# Altium integrated library Xilinx XC4000 E.IntLib: 265 symbols (part 4 of 26)
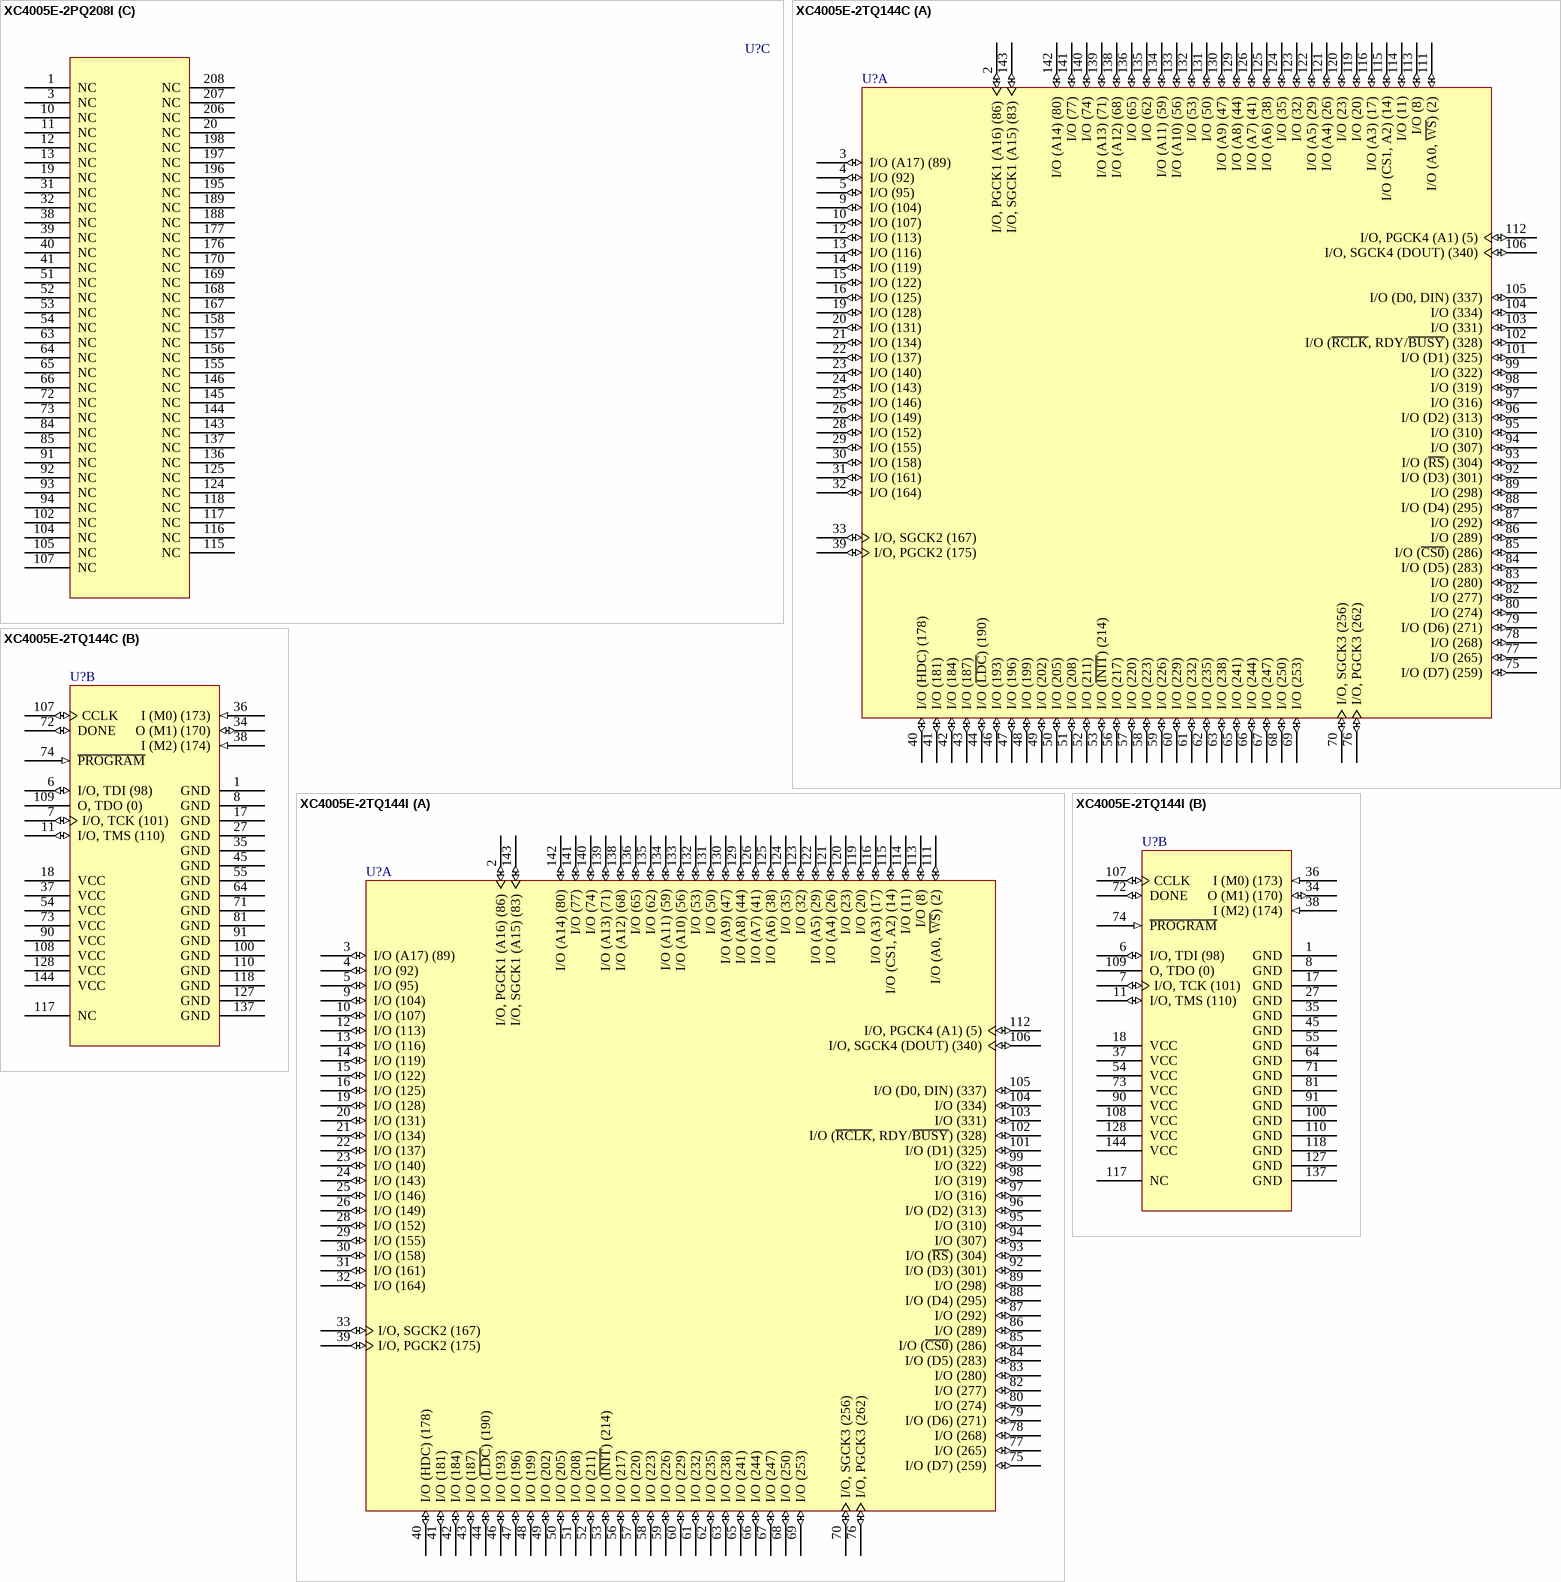
[diagram p274: symbols XC4005E-2PQ208I to XC4005E-2TQ144I]

## XC4005E-2PQ208I
designator U?
XC4000E FPGA, 208-Pin PQFP, Industrial Grade; ComponentAvailability: Not for New Design; Published: 28-Feb-2003; LatestRevisionDate: 13-Apr-2006; LatestRevisionNote: IPC-7351 Footprint Added.; DatasheetVersion: (v1.6) May-99; PackageVersion: ver1.2, Jun-2004; PackageReference: PQ208; Publisher: Altium Limited; PackageDescription: 208-Pin Plastic Quad Flat Pack (PQ208); Code_JEDEC: MS-029-FA-1; ComponentLink1Description: Manufacturer Link; ComponentLink1URL: http://www.xilinx.com/; ComponentLink2Description: Datasheet; ComponentLink2URL: http://direct.xilinx.com/bvdocs/publications/4000.pdf; ComponentLink3Description: Discontinuation Notice; ComponentLink3URL: http://direct.xilinx.com/bvdocs/notifications/pdn2004-21.pdf
footprint PQ208_N (Shrink QFP, 208-Leads, Body 28x28mm, Pitch 0.5mm, IPC Medium Density)
footprint PQ208_L (Shrink QFP, 208-Leads, Body 28x28mm, Pitch 0.5mm, IPC High Density)
footprint PQ208_M (Shrink QFP, 208-Leads, Body 28x28mm, Pitch 0.5mm, IPC Low Density)
3D model XC4005E-PQ208 (208-Pin Plastic Quad Flat Pack (PQ208))
part A pins: 4 I/O, PGCK1 (A16) (86) (io), 5 I/O (A17) (89) (io), 6 I/O (92) (io), 7 I/O (95) (io), 15 I/O (104) (io), 16 I/O (107) (io), 18 I/O (113) (io), 21 I/O (116) (io), 22 I/O (119) (io), 23 I/O (122) (io), 24 I/O (125) (io), 27 I/O (128) (io), 28 I/O (131) (io), 29 I/O (134) (io), 30 I/O (137) (io), 33 I/O (140) (io), 34 I/O (143) (io), 35 I/O (146) (io), 36 I/O (149) (io), 42 I/O (152) (io), 43 I/O (155) (io), 44 I/O (158) (io), 45 I/O (161) (io), 46 I/O (164) (io), 47 I/O, SGCK2 (167) (io), 57 I/O, PGCK2 (175) (io), 58 I/O (HDC) (178) (io), 59 I/O (181) (io), 60 I/O (184) (io), 61 I/O (187) (io), 62 I/O (~{LDC}) (190) (io), 68 I/O (193) (io), 69 I/O (196) (io), 70 I/O (199) (io), 71 I/O (202) (io), 74 I/O (205) (io), 75 I/O (208) (io), 76 I/O (211) (io), 77 I/O (~{INIT}) (214) (io), 80 I/O (217) (io), 81 I/O (220) (io), 82 I/O (223) (io), 83 I/O (226) (io), 86 I/O (229) (io), 87 I/O (232) (io), 88 I/O (235) (io), 89 I/O (238) (io), 95 I/O (241) (io), 96 I/O (244) (io), 97 I/O (247) (io), 98 I/O (250) (io), 99 I/O (253) (io), 100 I/O, SGCK3 (256) (io), 109 I/O (D7) (259) (io), 110 I/O, PGCK3 (262) (io), 111 I/O (265) (io), 112 I/O (268) (io), 113 I/O (D6) (271) (io), 114 I/O (274) (io), 120 I/O (277) (io), 121 I/O (280) (io), 122 I/O (D5) (283) (io), 123 I/O (~{CS0}) (286) (io), 126 I/O (289) (io), 127 I/O (292) (io), 128 I/O (D4) (295) (io), 129 I/O (298) (io), 132 I/O (D3) (301) (io), 133 I/O (~{RS}) (304) (io), 134 I/O (307) (io), 135 I/O (310) (io), 138 I/O (D2) (313) (io), 139 I/O (316) (io), 140 I/O (319) (io), 141 I/O (322) (io), 147 I/O (D1) (325) (io), 148 I/O (~{RCLK}, RDY/~{BUSY}) (328) (io), 149 I/O (331) (io), 150 I/O (334) (io), 151 I/O (D0, DIN) (337) (io), 152 I/O, SGCK4 (DOUT) (340) (io), 161 I/O (A0, ~{WS}) (2) (io), 162 I/O, PGCK4 (A1) (5) (io), 163 I/O (8) (io), 164 I/O (11) (io), 165 I/O (CS1, A2) (14) (io), 166 I/O (A3) (17) (io), 172 I/O (20) (io), 173 I/O (23) (io), 174 I/O (A4) (26) (io), 175 I/O (A5) (29) (io), 178 I/O (32) (io), 179 I/O (35) (io), 180 I/O (A6) (38) (io), 181 I/O (A7) (41) (io), 184 I/O (A8) (44) (io), 185 I/O (A9) (47) (io), 186 I/O (50) (io), 187 I/O (53) (io), 190 I/O (A10) (56) (io), 191 I/O (A11) (59) (io), 192 I/O (62) (io), 193 I/O (65) (io), 199 I/O (A12) (68) (io), 200 I/O (A13) (71) (io), 201 I/O (74) (io), 202 I/O (77) (io), 203 I/O (A14) (80) (io), 204 I/O, SGCK1 (A15) (83) (io)
part B pins: 2 GND (power), 8 I/O, TDI (98) (io), 9 I/O, TCK (101) (io), 14 GND (power), 17 I/O, TMS (110) (io), 25 GND (power), 26 VCC (power), 37 GND (power), 48 O (M1) (170) (io), 49 GND (power), 50 I (M0) (173) (in), 55 VCC (power), 56 I (M2) (174) (in), 67 GND (power), 78 VCC (power), 79 GND (power), 90 GND (power), 101 GND (power), 103 DONE (io), 106 VCC (power), 108 ~{PROGRAM} (in), 119 GND (power), 130 VCC (power), 131 GND (power), 142 GND (power), 153 CCLK (io), 154 VCC (power), 159 O, TDO (0) (hiz), 160 GND (power), 171 GND (power), 182 GND (power), 183 VCC (power), 194 GND (power), 205 VCC (power)
part C pins: 1 NC, 3 NC, 10 NC, 11 NC, 12 NC, 13 NC, 19 NC, 20 NC, 31 NC, 32 NC, 38 NC, 39 NC, 40 NC, 41 NC, 51 NC, 52 NC, 53 NC, 54 NC, 63 NC, 64 NC, 65 NC, 66 NC, 72 NC, 73 NC, 84 NC, 85 NC, 91 NC, 92 NC, 93 NC, 94 NC, 102 NC, 104 NC, 105 NC, 107 NC, 115 NC, 116 NC, 117 NC, 118 NC, 124 NC, 125 NC, 136 NC, 137 NC, 143 NC, 144 NC, 145 NC, 146 NC, 155 NC, 156 NC, 157 NC, 158 NC, 167 NC, 168 NC, 169 NC, 170 NC, 176 NC, 177 NC, 188 NC, 189 NC, 195 NC, 196 NC, 197 NC, 198 NC, 206 NC, 207 NC, 208 NC

## XC4005E-2TQ144C
designator U?
XC4000E FPGA, 144-Pin TQFP, Commercial Grade; ComponentAvailability: Not for New Design; Published: 28-Feb-2003; LatestRevisionDate: 13-Apr-2006; LatestRevisionNote: IPC-7351 Footprint Added.; DatasheetVersion: (v1.6) May-99; PackageVersion: ver1.2, Jun-2004; PackageReference: TQ144; Publisher: Altium Limited; PackageDescription: 144-Pin Thin Quad Flat Pack (TQ144); Code_JEDEC: MS-026-BFB; ComponentLink1Description: Manufacturer Link; ComponentLink1URL: http://www.xilinx.com/; ComponentLink2Description: Datasheet; ComponentLink2URL: http://direct.xilinx.com/bvdocs/publications/4000.pdf
footprint TQ144_N (Thin QFP, 144-Leads, Body 20x20mm, Pitch 0.5mm, IPC Medium Density)
footprint TQ144_L (Thin QFP, 144-Leads, Body 20x20mm, Pitch 0.5mm, IPC High Density)
footprint TQ144_M (Thin QFP, 144-Leads, Body 20x20mm, Pitch 0.5mm, IPC Low Density)
3D model XC4005E-TQ144 (144-Pin Thin Quad Flat Pack (TQ144))
part A pins: 2 I/O, PGCK1 (A16) (86) (io), 3 I/O (A17) (89) (io), 4 I/O (92) (io), 5 I/O (95) (io), 9 I/O (104) (io), 10 I/O (107) (io), 12 I/O (113) (io), 13 I/O (116) (io), 14 I/O (119) (io), 15 I/O (122) (io), 16 I/O (125) (io), 19 I/O (128) (io), 20 I/O (131) (io), 21 I/O (134) (io), 22 I/O (137) (io), 23 I/O (140) (io), 24 I/O (143) (io), 25 I/O (146) (io), 26 I/O (149) (io), 28 I/O (152) (io), 29 I/O (155) (io), 30 I/O (158) (io), 31 I/O (161) (io), 32 I/O (164) (io), 33 I/O, SGCK2 (167) (io), 39 I/O, PGCK2 (175) (io), 40 I/O (HDC) (178) (io), 41 I/O (181) (io), 42 I/O (184) (io), 43 I/O (187) (io), 44 I/O (~{LDC}) (190) (io), 46 I/O (193) (io), 47 I/O (196) (io), 48 I/O (199) (io), 49 I/O (202) (io), 50 I/O (205) (io), 51 I/O (208) (io), 52 I/O (211) (io), 53 I/O (~{INIT}) (214) (io), 56 I/O (217) (io), 57 I/O (220) (io), 58 I/O (223) (io), 59 I/O (226) (io), 60 I/O (229) (io), 61 I/O (232) (io), 62 I/O (235) (io), 63 I/O (238) (io), 65 I/O (241) (io), 66 I/O (244) (io), 67 I/O (247) (io), 68 I/O (250) (io), 69 I/O (253) (io), 70 I/O, SGCK3 (256) (io), 75 I/O (D7) (259) (io), 76 I/O, PGCK3 (262) (io), 77 I/O (265) (io), 78 I/O (268) (io), 79 I/O (D6) (271) (io), 80 I/O (274) (io), 82 I/O (277) (io), 83 I/O (280) (io), 84 I/O (D5) (283) (io), 85 I/O (~{CS0}) (286) (io), 86 I/O (289) (io), 87 I/O (292) (io), 88 I/O (D4) (295) (io), 89 I/O (298) (io), 92 I/O (D3) (301) (io), 93 I/O (~{RS}) (304) (io), 94 I/O (307) (io), 95 I/O (310) (io), 96 I/O (D2) (313) (io), 97 I/O (316) (io), 98 I/O (319) (io), 99 I/O (322) (io), 101 I/O (D1) (325) (io), 102 I/O (~{RCLK}, RDY/~{BUSY}) (328) (io), 103 I/O (331) (io), 104 I/O (334) (io), 105 I/O (D0, DIN) (337) (io), 106 I/O, SGCK4 (DOUT) (340) (io), 111 I/O (A0, ~{WS}) (2) (io), 112 I/O, PGCK4 (A1) (5) (io), 113 I/O (8) (io), 114 I/O (11) (io), 115 I/O (CS1, A2) (14) (io), 116 I/O (A3) (17) (io), 119 I/O (20) (io), 120 I/O (23) (io), 121 I/O (A4) (26) (io), 122 I/O (A5) (29) (io), 123 I/O (32) (io), 124 I/O (35) (io), 125 I/O (A6) (38) (io), 126 I/O (A7) (41) (io), 129 I/O (A8) (44) (io), 130 I/O (A9) (47) (io), 131 I/O (50) (io), 132 I/O (53) (io), 133 I/O (A10) (56) (io), 134 I/O (A11) (59) (io), 135 I/O (62) (io), 136 I/O (65) (io), 138 I/O (A12) (68) (io), 139 I/O (A13) (71) (io), 140 I/O (74) (io), 141 I/O (77) (io), 142 I/O (A14) (80) (io), 143 I/O, SGCK1 (A15) (83) (io)
part B pins: 1 GND (power), 6 I/O, TDI (98) (io), 7 I/O, TCK (101) (io), 8 GND (power), 11 I/O, TMS (110) (io), 17 GND (power), 18 VCC (power), 27 GND (power), 34 O (M1) (170) (io), 35 GND (power), 36 I (M0) (173) (in), 37 VCC (power), 38 I (M2) (174) (in), 45 GND (power), 54 VCC (power), 55 GND (power), 64 GND (power), 71 GND (power), 72 DONE (io), 73 VCC (power), 74 ~{PROGRAM} (in), 81 GND (power), 90 VCC (power), 91 GND (power), 100 GND (power), 107 CCLK (io), 108 VCC (power), 109 O, TDO (0) (hiz), 110 GND (power), 117 NC, 118 GND (power), 127 GND (power), 128 VCC (power), 137 GND (power), 144 VCC (power)

## XC4005E-2TQ144I
designator U?
XC4000E FPGA, 144-Pin TQFP, Industrial Grade; ComponentAvailability: Not for New Design; Published: 28-Feb-2003; LatestRevisionDate: 13-Apr-2006; LatestRevisionNote: IPC-7351 Footprint Added.; DatasheetVersion: (v1.6) May-99; PackageVersion: ver1.2, Jun-2004; PackageReference: TQ144; Publisher: Altium Limited; PackageDescription: 144-Pin Thin Quad Flat Pack (TQ144); Code_JEDEC: MS-026-BFB; ComponentLink1Description: Manufacturer Link; ComponentLink1URL: http://www.xilinx.com/; ComponentLink2Description: Datasheet; ComponentLink2URL: http://direct.xilinx.com/bvdocs/publications/4000.pdf
footprint TQ144_N (Thin QFP, 144-Leads, Body 20x20mm, Pitch 0.5mm, IPC Medium Density)
footprint TQ144_L (Thin QFP, 144-Leads, Body 20x20mm, Pitch 0.5mm, IPC High Density)
footprint TQ144_M (Thin QFP, 144-Leads, Body 20x20mm, Pitch 0.5mm, IPC Low Density)
3D model XC4005E-TQ144 (144-Pin Thin Quad Flat Pack (TQ144))
part A pins: 2 I/O, PGCK1 (A16) (86) (io), 3 I/O (A17) (89) (io), 4 I/O (92) (io), 5 I/O (95) (io), 9 I/O (104) (io), 10 I/O (107) (io), 12 I/O (113) (io), 13 I/O (116) (io), 14 I/O (119) (io), 15 I/O (122) (io), 16 I/O (125) (io), 19 I/O (128) (io), 20 I/O (131) (io), 21 I/O (134) (io), 22 I/O (137) (io), 23 I/O (140) (io), 24 I/O (143) (io), 25 I/O (146) (io), 26 I/O (149) (io), 28 I/O (152) (io), 29 I/O (155) (io), 30 I/O (158) (io), 31 I/O (161) (io), 32 I/O (164) (io), 33 I/O, SGCK2 (167) (io), 39 I/O, PGCK2 (175) (io), 40 I/O (HDC) (178) (io), 41 I/O (181) (io), 42 I/O (184) (io), 43 I/O (187) (io), 44 I/O (~{LDC}) (190) (io), 46 I/O (193) (io), 47 I/O (196) (io), 48 I/O (199) (io), 49 I/O (202) (io), 50 I/O (205) (io), 51 I/O (208) (io), 52 I/O (211) (io), 53 I/O (~{INIT}) (214) (io), 56 I/O (217) (io), 57 I/O (220) (io), 58 I/O (223) (io), 59 I/O (226) (io), 60 I/O (229) (io), 61 I/O (232) (io), 62 I/O (235) (io), 63 I/O (238) (io), 65 I/O (241) (io), 66 I/O (244) (io), 67 I/O (247) (io), 68 I/O (250) (io), 69 I/O (253) (io), 70 I/O, SGCK3 (256) (io), 75 I/O (D7) (259) (io), 76 I/O, PGCK3 (262) (io), 77 I/O (265) (io), 78 I/O (268) (io), 79 I/O (D6) (271) (io), 80 I/O (274) (io), 82 I/O (277) (io), 83 I/O (280) (io), 84 I/O (D5) (283) (io), 85 I/O (~{CS0}) (286) (io), 86 I/O (289) (io), 87 I/O (292) (io), 88 I/O (D4) (295) (io), 89 I/O (298) (io), 92 I/O (D3) (301) (io), 93 I/O (~{RS}) (304) (io), 94 I/O (307) (io), 95 I/O (310) (io), 96 I/O (D2) (313) (io), 97 I/O (316) (io), 98 I/O (319) (io), 99 I/O (322) (io), 101 I/O (D1) (325) (io), 102 I/O (~{RCLK}, RDY/~{BUSY}) (328) (io), 103 I/O (331) (io), 104 I/O (334) (io), 105 I/O (D0, DIN) (337) (io), 106 I/O, SGCK4 (DOUT) (340) (io), 111 I/O (A0, ~{WS}) (2) (io), 112 I/O, PGCK4 (A1) (5) (io), 113 I/O (8) (io), 114 I/O (11) (io), 115 I/O (CS1, A2) (14) (io), 116 I/O (A3) (17) (io), 119 I/O (20) (io), 120 I/O (23) (io), 121 I/O (A4) (26) (io), 122 I/O (A5) (29) (io), 123 I/O (32) (io), 124 I/O (35) (io), 125 I/O (A6) (38) (io), 126 I/O (A7) (41) (io), 129 I/O (A8) (44) (io), 130 I/O (A9) (47) (io), 131 I/O (50) (io), 132 I/O (53) (io), 133 I/O (A10) (56) (io), 134 I/O (A11) (59) (io), 135 I/O (62) (io), 136 I/O (65) (io), 138 I/O (A12) (68) (io), 139 I/O (A13) (71) (io), 140 I/O (74) (io), 141 I/O (77) (io), 142 I/O (A14) (80) (io), 143 I/O, SGCK1 (A15) (83) (io)
part B pins: 1 GND (power), 6 I/O, TDI (98) (io), 7 I/O, TCK (101) (io), 8 GND (power), 11 I/O, TMS (110) (io), 17 GND (power), 18 VCC (power), 27 GND (power), 34 O (M1) (170) (io), 35 GND (power), 36 I (M0) (173) (in), 37 VCC (power), 38 I (M2) (174) (in), 45 GND (power), 54 VCC (power), 55 GND (power), 64 GND (power), 71 GND (power), 72 DONE (io), 73 VCC (power), 74 ~{PROGRAM} (in), 81 GND (power), 90 VCC (power), 91 GND (power), 100 GND (power), 107 CCLK (io), 108 VCC (power), 109 O, TDO (0) (hiz), 110 GND (power), 117 NC, 118 GND (power), 127 GND (power), 128 VCC (power), 137 GND (power), 144 VCC (power)

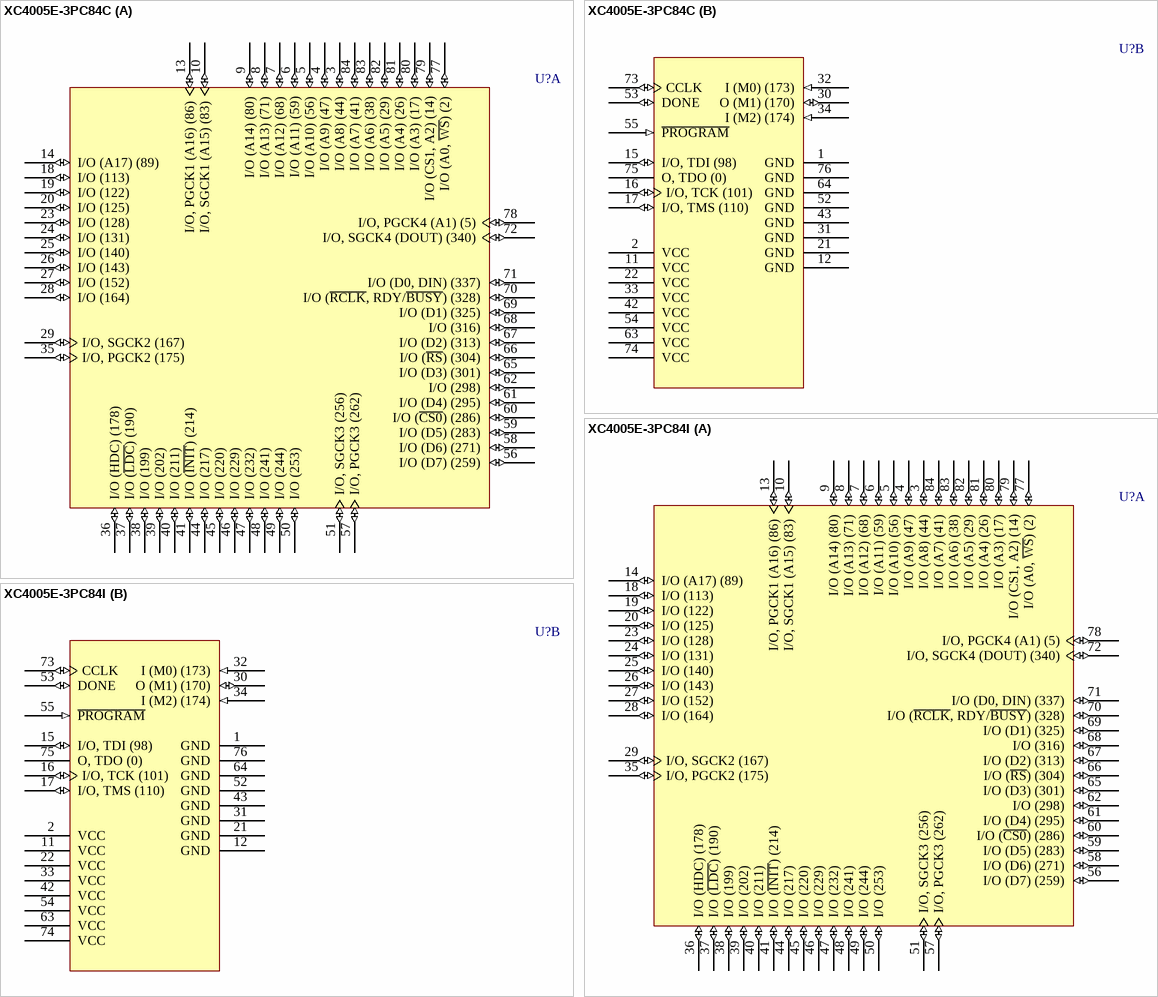
[diagram p24: symbols XC4005E-3PC84C to XC4005E-3PC84I]

## XC4005E-3PC84C
designator U?
XC4000E FPGA, 84-Pin PLCC, Commercial Grade; ComponentAvailability: Not for New Design; Published: 28-Feb-2003; LatestRevisionDate: 13-Apr-2006; LatestRevisionNote: IPC-7351 Footprint Added.; DatasheetVersion: (v1.6) May-99; PackageVersion: ver1.2, Jun-2004; PackageReference: PC84; Publisher: Altium Limited; PackageDescription: 84-Pin Plastic Leaded Chip Carrier (PC84); Code_JEDEC: MS-047; Code_IPC: PLCC-84; ComponentLink1Description: Manufacturer Link; ComponentLink1URL: http://www.xilinx.com/; ComponentLink2Description: Datasheet; ComponentLink2URL: http://direct.xilinx.com/bvdocs/publications/4000.pdf
footprint PC84_N (Leaded Chip Carrier, 84-Leads, Body 29.3x29.3mm, Pitch 1.27mm, IPC Medium Density)
footprint PC84_L (Leaded Chip Carrier, 84-Leads, Body 29.3x29.3mm, Pitch 1.27mm, IPC High Density)
footprint PC84_M (Leaded Chip Carrier, 84-Leads, Body 29.3x29.3mm, Pitch 1.27mm, IPC Low Density)
3D model XC4005E-PC84 (84-Pin Plastic Leaded Chip Carrier (PC84))
part A pins: 3 I/O (A8) (44) (io), 4 I/O (A9) (47) (io), 5 I/O (A10) (56) (io), 6 I/O (A11) (59) (io), 7 I/O (A12) (68) (io), 8 I/O (A13) (71) (io), 9 I/O (A14) (80) (io), 10 I/O, SGCK1 (A15) (83) (io), 13 I/O, PGCK1 (A16) (86) (io), 14 I/O (A17) (89) (io), 18 I/O (113) (io), 19 I/O (122) (io), 20 I/O (125) (io), 23 I/O (128) (io), 24 I/O (131) (io), 25 I/O (140) (io), 26 I/O (143) (io), 27 I/O (152) (io), 28 I/O (164) (io), 29 I/O, SGCK2 (167) (io), 35 I/O, PGCK2 (175) (io), 36 I/O (HDC) (178) (io), 37 I/O (~{LDC}) (190) (io), 38 I/O (199) (io), 39 I/O (202) (io), 40 I/O (211) (io), 41 I/O (~{INIT}) (214) (io), 44 I/O (217) (io), 45 I/O (220) (io), 46 I/O (229) (io), 47 I/O (232) (io), 48 I/O (241) (io), 49 I/O (244) (io), 50 I/O (253) (io), 51 I/O, SGCK3 (256) (io), 56 I/O (D7) (259) (io), 57 I/O, PGCK3 (262) (io), 58 I/O (D6) (271) (io), 59 I/O (D5) (283) (io), 60 I/O (~{CS0}) (286) (io), 61 I/O (D4) (295) (io), 62 I/O (298) (io), 65 I/O (D3) (301) (io), 66 I/O (~{RS}) (304) (io), 67 I/O (D2) (313) (io), 68 I/O (316) (io), 69 I/O (D1) (325) (io), 70 I/O (~{RCLK}, RDY/~{BUSY}) (328) (io), 71 I/O (D0, DIN) (337) (io), 72 I/O, SGCK4 (DOUT) (340) (io), 77 I/O (A0, ~{WS}) (2) (io), 78 I/O, PGCK4 (A1) (5) (io), 79 I/O (CS1, A2) (14) (io), 80 I/O (A3) (17) (io), 81 I/O (A4) (26) (io), 82 I/O (A5) (29) (io), 83 I/O (A6) (38) (io), 84 I/O (A7) (41) (io)
part B pins: 1 GND (power), 2 VCC (power), 11 VCC (power), 12 GND (power), 15 I/O, TDI (98) (io), 16 I/O, TCK (101) (io), 17 I/O, TMS (110) (io), 21 GND (power), 22 VCC (power), 30 O (M1) (170) (io), 31 GND (power), 32 I (M0) (173) (in), 33 VCC (power), 34 I (M2) (174) (in), 42 VCC (power), 43 GND (power), 52 GND (power), 53 DONE (io), 54 VCC (power), 55 ~{PROGRAM} (in), 63 VCC (power), 64 GND (power), 73 CCLK (io), 74 VCC (power), 75 O, TDO (0) (hiz), 76 GND (power)

## XC4005E-3PC84I
designator U?
XC4000E FPGA, 84-Pin PLCC, Industrial Grade; ComponentAvailability: Not for New Design; Published: 28-Feb-2003; LatestRevisionDate: 13-Apr-2006; LatestRevisionNote: IPC-7351 Footprint Added.; DatasheetVersion: (v1.6) May-99; PackageVersion: ver1.2, Jun-2004; PackageReference: PC84; Publisher: Altium Limited; PackageDescription: 84-Pin Plastic Leaded Chip Carrier (PC84); Code_JEDEC: MS-047; Code_IPC: PLCC-84; ComponentLink1Description: Manufacturer Link; ComponentLink1URL: http://www.xilinx.com/; ComponentLink2Description: Datasheet; ComponentLink2URL: http://direct.xilinx.com/bvdocs/publications/4000.pdf
footprint PC84_N (Leaded Chip Carrier, 84-Leads, Body 29.3x29.3mm, Pitch 1.27mm, IPC Medium Density)
footprint PC84_L (Leaded Chip Carrier, 84-Leads, Body 29.3x29.3mm, Pitch 1.27mm, IPC High Density)
footprint PC84_M (Leaded Chip Carrier, 84-Leads, Body 29.3x29.3mm, Pitch 1.27mm, IPC Low Density)
3D model XC4005E-PC84 (84-Pin Plastic Leaded Chip Carrier (PC84))
part A pins: 3 I/O (A8) (44) (io), 4 I/O (A9) (47) (io), 5 I/O (A10) (56) (io), 6 I/O (A11) (59) (io), 7 I/O (A12) (68) (io), 8 I/O (A13) (71) (io), 9 I/O (A14) (80) (io), 10 I/O, SGCK1 (A15) (83) (io), 13 I/O, PGCK1 (A16) (86) (io), 14 I/O (A17) (89) (io), 18 I/O (113) (io), 19 I/O (122) (io), 20 I/O (125) (io), 23 I/O (128) (io), 24 I/O (131) (io), 25 I/O (140) (io), 26 I/O (143) (io), 27 I/O (152) (io), 28 I/O (164) (io), 29 I/O, SGCK2 (167) (io), 35 I/O, PGCK2 (175) (io), 36 I/O (HDC) (178) (io), 37 I/O (~{LDC}) (190) (io), 38 I/O (199) (io), 39 I/O (202) (io), 40 I/O (211) (io), 41 I/O (~{INIT}) (214) (io), 44 I/O (217) (io), 45 I/O (220) (io), 46 I/O (229) (io), 47 I/O (232) (io), 48 I/O (241) (io), 49 I/O (244) (io), 50 I/O (253) (io), 51 I/O, SGCK3 (256) (io), 56 I/O (D7) (259) (io), 57 I/O, PGCK3 (262) (io), 58 I/O (D6) (271) (io), 59 I/O (D5) (283) (io), 60 I/O (~{CS0}) (286) (io), 61 I/O (D4) (295) (io), 62 I/O (298) (io), 65 I/O (D3) (301) (io), 66 I/O (~{RS}) (304) (io), 67 I/O (D2) (313) (io), 68 I/O (316) (io), 69 I/O (D1) (325) (io), 70 I/O (~{RCLK}, RDY/~{BUSY}) (328) (io), 71 I/O (D0, DIN) (337) (io), 72 I/O, SGCK4 (DOUT) (340) (io), 77 I/O (A0, ~{WS}) (2) (io), 78 I/O, PGCK4 (A1) (5) (io), 79 I/O (CS1, A2) (14) (io), 80 I/O (A3) (17) (io), 81 I/O (A4) (26) (io), 82 I/O (A5) (29) (io), 83 I/O (A6) (38) (io), 84 I/O (A7) (41) (io)
part B pins: 1 GND (power), 2 VCC (power), 11 VCC (power), 12 GND (power), 15 I/O, TDI (98) (io), 16 I/O, TCK (101) (io), 17 I/O, TMS (110) (io), 21 GND (power), 22 VCC (power), 30 O (M1) (170) (io), 31 GND (power), 32 I (M0) (173) (in), 33 VCC (power), 34 I (M2) (174) (in), 42 VCC (power), 43 GND (power), 52 GND (power), 53 DONE (io), 54 VCC (power), 55 ~{PROGRAM} (in), 63 VCC (power), 64 GND (power), 73 CCLK (io), 74 VCC (power), 75 O, TDO (0) (hiz), 76 GND (power)

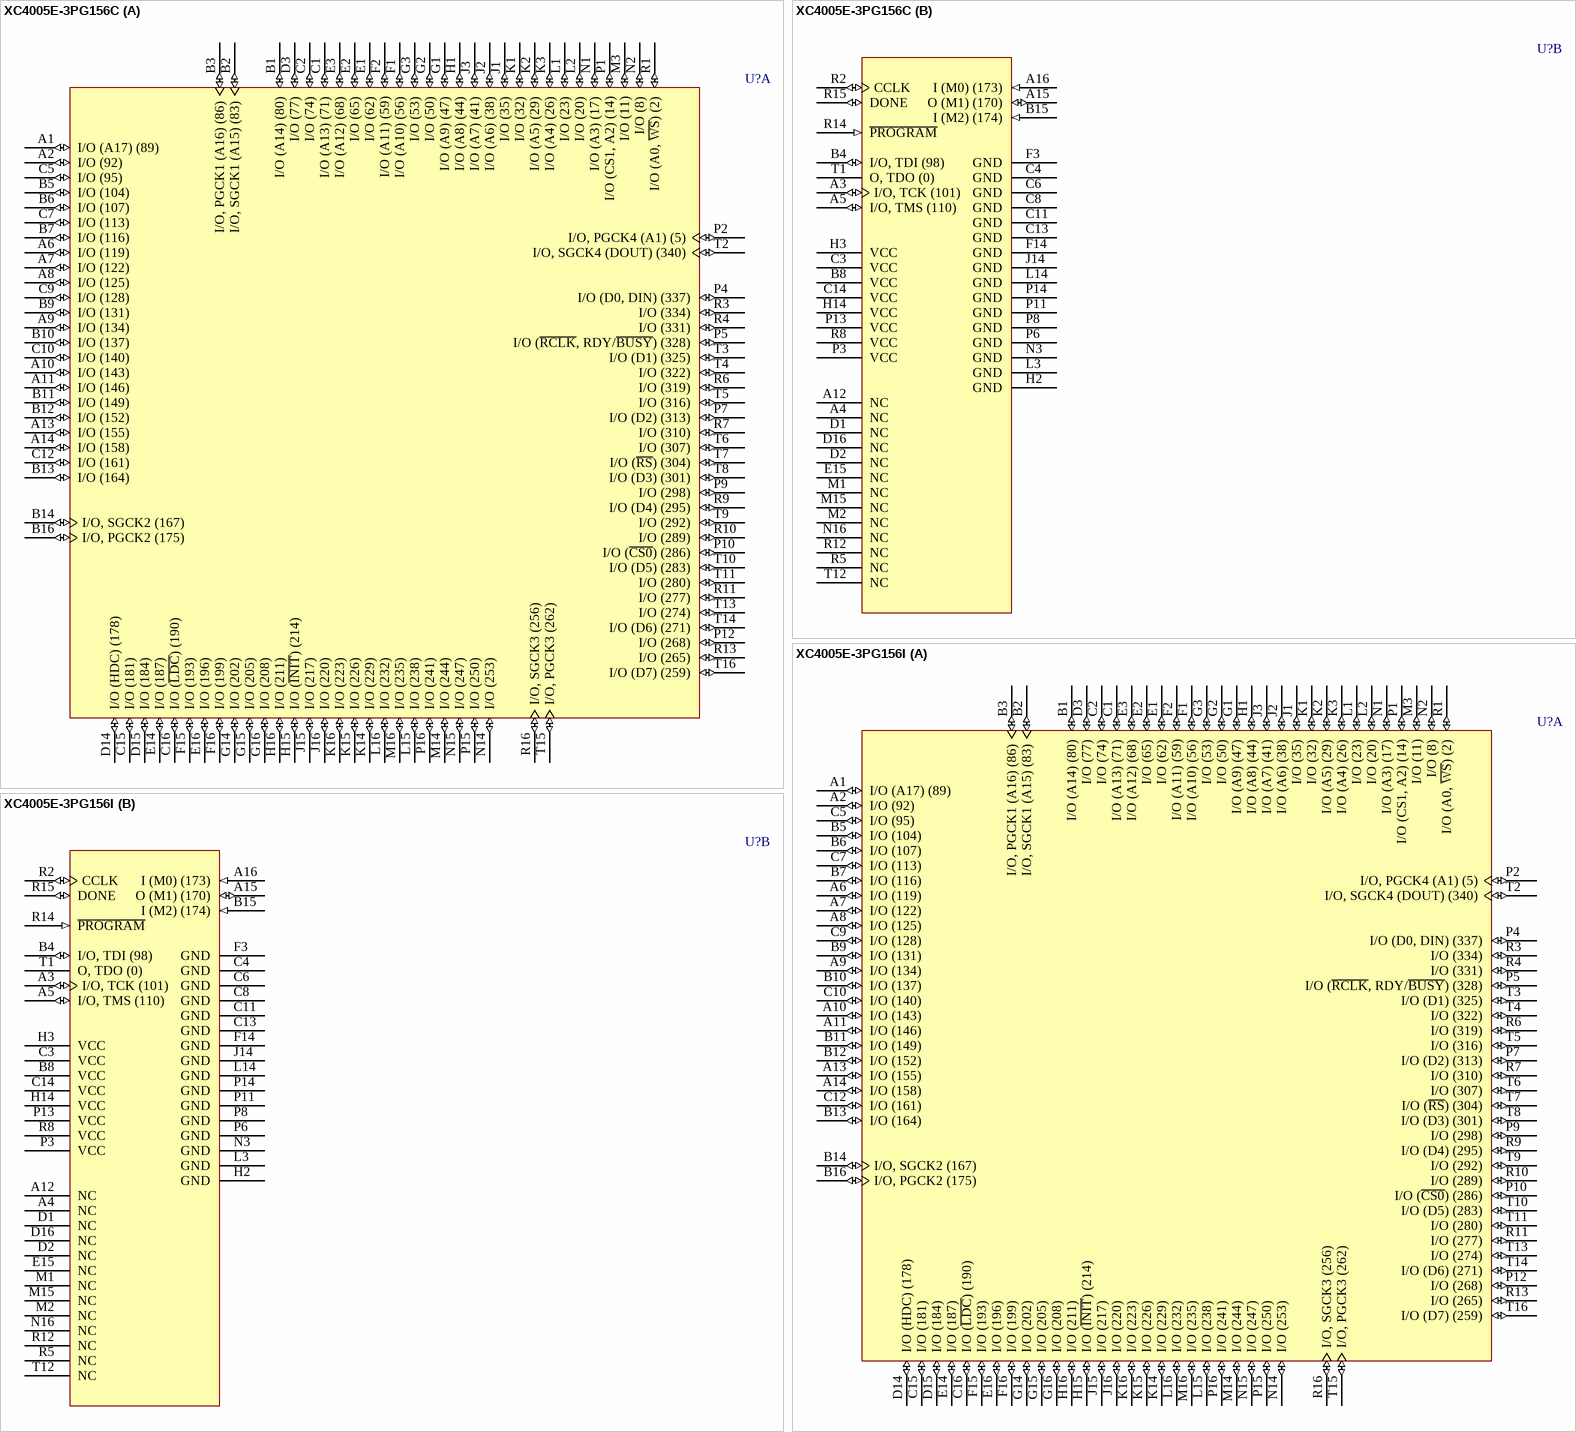
[diagram p25: symbols XC4005E-3PG156C to XC4005E-3PG156I]

## XC4005E-3PG156C
designator U?
XC4000E FPGA, 156-Pin PGA, Commercial Grade; ComponentAvailability: Not for New Design; Published: 28-Feb-2003; LatestRevisionDate: 04-Mar-2005; LatestRevisionNote: Stylized 3D Model Added.; DatasheetVersion: (v1.6) May-99; PackageVersion: ver1.1, Apr-2001; PackageReference: PG156; Publisher: Altium Limited; PackageDescription: 156-Pin Ceramic Pin Grid Array (PG156); Code_JEDEC: MO-067-AH; ComponentLink1Description: Manufacturer Link; ComponentLink1URL: http://www.xilinx.com/; ComponentLink2Description: Datasheet; ComponentLink2URL: http://direct.xilinx.com/bvdocs/publications/4000.pdf; ComponentLink3Description: Discontinuation Notice; ComponentLink3URL: http://direct.xilinx.com/bvdocs/notifications/pdn2002-03.pdf
footprint PG156 (PGA, 156-Leads, Body 42x42mm, Pitch 2.54mm)
3D model XC4005E-PG156 (156-Pin Ceramic Pin Grid Array (PG156))
part A pins: A1 I/O (A17) (89) (io), A2 I/O (92) (io), A6 I/O (119) (io), A7 I/O (122) (io), A8 I/O (125) (io), A9 I/O (134) (io), A10 I/O (143) (io), A11 I/O (146) (io), A13 I/O (155) (io), A14 I/O (158) (io), B1 I/O (A14) (80) (io), B2 I/O, SGCK1 (A15) (83) (io), B3 I/O, PGCK1 (A16) (86) (io), B5 I/O (104) (io), B6 I/O (107) (io), B7 I/O (116) (io), B9 I/O (131) (io), B10 I/O (137) (io), B11 I/O (149) (io), B12 I/O (152) (io), B13 I/O (164) (io), B14 I/O, SGCK2 (167) (io), B16 I/O, PGCK2 (175) (io), C1 I/O (A13) (71) (io), C2 I/O (74) (io), C5 I/O (95) (io), C7 I/O (113) (io), C9 I/O (128) (io), C10 I/O (140) (io), C12 I/O (161) (io), C15 I/O (181) (io), C16 I/O (~{LDC}) (190) (io), D3 I/O (77) (io), D14 I/O (HDC) (178) (io), D15 I/O (184) (io), E1 I/O (62) (io), E2 I/O (65) (io), E3 I/O (A12) (68) (io), E14 I/O (187) (io), E16 I/O (196) (io), F1 I/O (A10) (56) (io), F2 I/O (A11) (59) (io), F15 I/O (193) (io), F16 I/O (199) (io), G1 I/O (A9) (47) (io), G2 I/O (50) (io), G3 I/O (53) (io), G14 I/O (202) (io), G15 I/O (205) (io), G16 I/O (208) (io), H1 I/O (A8) (44) (io), H15 I/O (~{INIT}) (214) (io), H16 I/O (211) (io), J1 I/O (35) (io), J2 I/O (A6) (38) (io), J3 I/O (A7) (41) (io), J15 I/O (217) (io), J16 I/O (220) (io), K1 I/O (32) (io), K2 I/O (A5) (29) (io), K3 I/O (A4) (26) (io), K14 I/O (229) (io), K15 I/O (226) (io), K16 I/O (223) (io), L1 I/O (23) (io), L2 I/O (20) (io), L15 I/O (238) (io), L16 I/O (232) (io), M3 I/O (11) (io), M14 I/O (244) (io), M16 I/O (235) (io), N1 I/O (A3) (17) (io), N2 I/O (8) (io), N14 I/O (253) (io), N15 I/O (247) (io), P1 I/O (CS1, A2) (14) (io), P2 I/O, PGCK4 (A1) (5) (io), P4 I/O (D0, DIN) (337) (io), P5 I/O (~{RCLK}, RDY/~{BUSY}) (328) (io), P7 I/O (D2) (313) (io), P9 I/O (298) (io), P10 I/O (~{CS0}) (286) (io), P12 I/O (268) (io), P15 I/O (250) (io), P16 I/O (241) (io), R1 I/O (A0, ~{WS}) (2) (io), R3 I/O (334) (io), R4 I/O (331) (io), R6 I/O (319) (io), R7 I/O (310) (io), R9 I/O (D4) (295) (io), R10 I/O (289) (io), R11 I/O (277) (io), R13 I/O (265) (io), R16 I/O, SGCK3 (256) (io), T2 I/O, SGCK4 (DOUT) (340) (io), T3 I/O (D1) (325) (io), T4 I/O (322) (io), T5 I/O (316) (io), T6 I/O (307) (io), T7 I/O (~{RS}) (304) (io), T8 I/O (D3) (301) (io), T9 I/O (292) (io), T10 I/O (D5) (283) (io), T11 I/O (280) (io), T13 I/O (274) (io), T14 I/O (D6) (271) (io), T15 I/O, PGCK3 (262) (io), T16 I/O (D7) (259) (io)
part B pins: A3 I/O, TCK (101) (io), A4 NC, A5 I/O, TMS (110) (io), A12 NC, A15 O (M1) (170) (io), A16 I (M0) (173) (in), B4 I/O, TDI (98) (io), B8 VCC (power), B15 I (M2) (174) (in), C3 VCC (power), C4 GND (power), C6 GND (power), C8 GND (power), C11 GND (power), C13 GND (power), C14 VCC (power), D1 NC, D2 NC, D16 NC, E15 NC, F3 GND (power), F14 GND (power), H2 GND (power), H3 VCC (power), H14 VCC (power), J14 GND (power), L3 GND (power), L14 GND (power), M1 NC, M2 NC, M15 NC, N3 GND (power), N16 NC, P3 VCC (power), P6 GND (power), P8 GND (power), P11 GND (power), P13 VCC (power), P14 GND (power), R2 CCLK (io), R5 NC, R8 VCC (power), R12 NC, R14 ~{PROGRAM} (in), R15 DONE (io), T1 O, TDO (0) (hiz), T12 NC

## XC4005E-3PG156I
designator U?
XC4000E FPGA, 156-Pin PGA, Industrial Grade; ComponentAvailability: Not for New Design; Published: 28-Feb-2003; LatestRevisionDate: 04-Mar-2005; LatestRevisionNote: Stylized 3D Model Added.; DatasheetVersion: (v1.6) May-99; PackageVersion: ver1.1, Apr-2001; PackageReference: PG156; Publisher: Altium Limited; PackageDescription: 156-Pin Ceramic Pin Grid Array (PG156); Code_JEDEC: MO-067-AH; ComponentLink1Description: Manufacturer Link; ComponentLink1URL: http://www.xilinx.com/; ComponentLink2Description: Datasheet; ComponentLink2URL: http://direct.xilinx.com/bvdocs/publications/4000.pdf; ComponentLink3Description: Discontinuation Notice; ComponentLink3URL: http://direct.xilinx.com/bvdocs/notifications/pdn2002-03.pdf
footprint PG156 (PGA, 156-Leads, Body 42x42mm, Pitch 2.54mm)
3D model XC4005E-PG156 (156-Pin Ceramic Pin Grid Array (PG156))
part A pins: A1 I/O (A17) (89) (io), A2 I/O (92) (io), A6 I/O (119) (io), A7 I/O (122) (io), A8 I/O (125) (io), A9 I/O (134) (io), A10 I/O (143) (io), A11 I/O (146) (io), A13 I/O (155) (io), A14 I/O (158) (io), B1 I/O (A14) (80) (io), B2 I/O, SGCK1 (A15) (83) (io), B3 I/O, PGCK1 (A16) (86) (io), B5 I/O (104) (io), B6 I/O (107) (io), B7 I/O (116) (io), B9 I/O (131) (io), B10 I/O (137) (io), B11 I/O (149) (io), B12 I/O (152) (io), B13 I/O (164) (io), B14 I/O, SGCK2 (167) (io), B16 I/O, PGCK2 (175) (io), C1 I/O (A13) (71) (io), C2 I/O (74) (io), C5 I/O (95) (io), C7 I/O (113) (io), C9 I/O (128) (io), C10 I/O (140) (io), C12 I/O (161) (io), C15 I/O (181) (io), C16 I/O (~{LDC}) (190) (io), D3 I/O (77) (io), D14 I/O (HDC) (178) (io), D15 I/O (184) (io), E1 I/O (62) (io), E2 I/O (65) (io), E3 I/O (A12) (68) (io), E14 I/O (187) (io), E16 I/O (196) (io), F1 I/O (A10) (56) (io), F2 I/O (A11) (59) (io), F15 I/O (193) (io), F16 I/O (199) (io), G1 I/O (A9) (47) (io), G2 I/O (50) (io), G3 I/O (53) (io), G14 I/O (202) (io), G15 I/O (205) (io), G16 I/O (208) (io), H1 I/O (A8) (44) (io), H15 I/O (~{INIT}) (214) (io), H16 I/O (211) (io), J1 I/O (35) (io), J2 I/O (A6) (38) (io), J3 I/O (A7) (41) (io), J15 I/O (217) (io), J16 I/O (220) (io), K1 I/O (32) (io), K2 I/O (A5) (29) (io), K3 I/O (A4) (26) (io), K14 I/O (229) (io), K15 I/O (226) (io), K16 I/O (223) (io), L1 I/O (23) (io), L2 I/O (20) (io), L15 I/O (238) (io), L16 I/O (232) (io), M3 I/O (11) (io), M14 I/O (244) (io), M16 I/O (235) (io), N1 I/O (A3) (17) (io), N2 I/O (8) (io), N14 I/O (253) (io), N15 I/O (247) (io), P1 I/O (CS1, A2) (14) (io), P2 I/O, PGCK4 (A1) (5) (io), P4 I/O (D0, DIN) (337) (io), P5 I/O (~{RCLK}, RDY/~{BUSY}) (328) (io), P7 I/O (D2) (313) (io), P9 I/O (298) (io), P10 I/O (~{CS0}) (286) (io), P12 I/O (268) (io), P15 I/O (250) (io), P16 I/O (241) (io), R1 I/O (A0, ~{WS}) (2) (io), R3 I/O (334) (io), R4 I/O (331) (io), R6 I/O (319) (io), R7 I/O (310) (io), R9 I/O (D4) (295) (io), R10 I/O (289) (io), R11 I/O (277) (io), R13 I/O (265) (io), R16 I/O, SGCK3 (256) (io), T2 I/O, SGCK4 (DOUT) (340) (io), T3 I/O (D1) (325) (io), T4 I/O (322) (io), T5 I/O (316) (io), T6 I/O (307) (io), T7 I/O (~{RS}) (304) (io), T8 I/O (D3) (301) (io), T9 I/O (292) (io), T10 I/O (D5) (283) (io), T11 I/O (280) (io), T13 I/O (274) (io), T14 I/O (D6) (271) (io), T15 I/O, PGCK3 (262) (io), T16 I/O (D7) (259) (io)
part B pins: A3 I/O, TCK (101) (io), A4 NC, A5 I/O, TMS (110) (io), A12 NC, A15 O (M1) (170) (io), A16 I (M0) (173) (in), B4 I/O, TDI (98) (io), B8 VCC (power), B15 I (M2) (174) (in), C3 VCC (power), C4 GND (power), C6 GND (power), C8 GND (power), C11 GND (power), C13 GND (power), C14 VCC (power), D1 NC, D2 NC, D16 NC, E15 NC, F3 GND (power), F14 GND (power), H2 GND (power), H3 VCC (power), H14 VCC (power), J14 GND (power), L3 GND (power), L14 GND (power), M1 NC, M2 NC, M15 NC, N3 GND (power), N16 NC, P3 VCC (power), P6 GND (power), P8 GND (power), P11 GND (power), P13 VCC (power), P14 GND (power), R2 CCLK (io), R5 NC, R8 VCC (power), R12 NC, R14 ~{PROGRAM} (in), R15 DONE (io), T1 O, TDO (0) (hiz), T12 NC

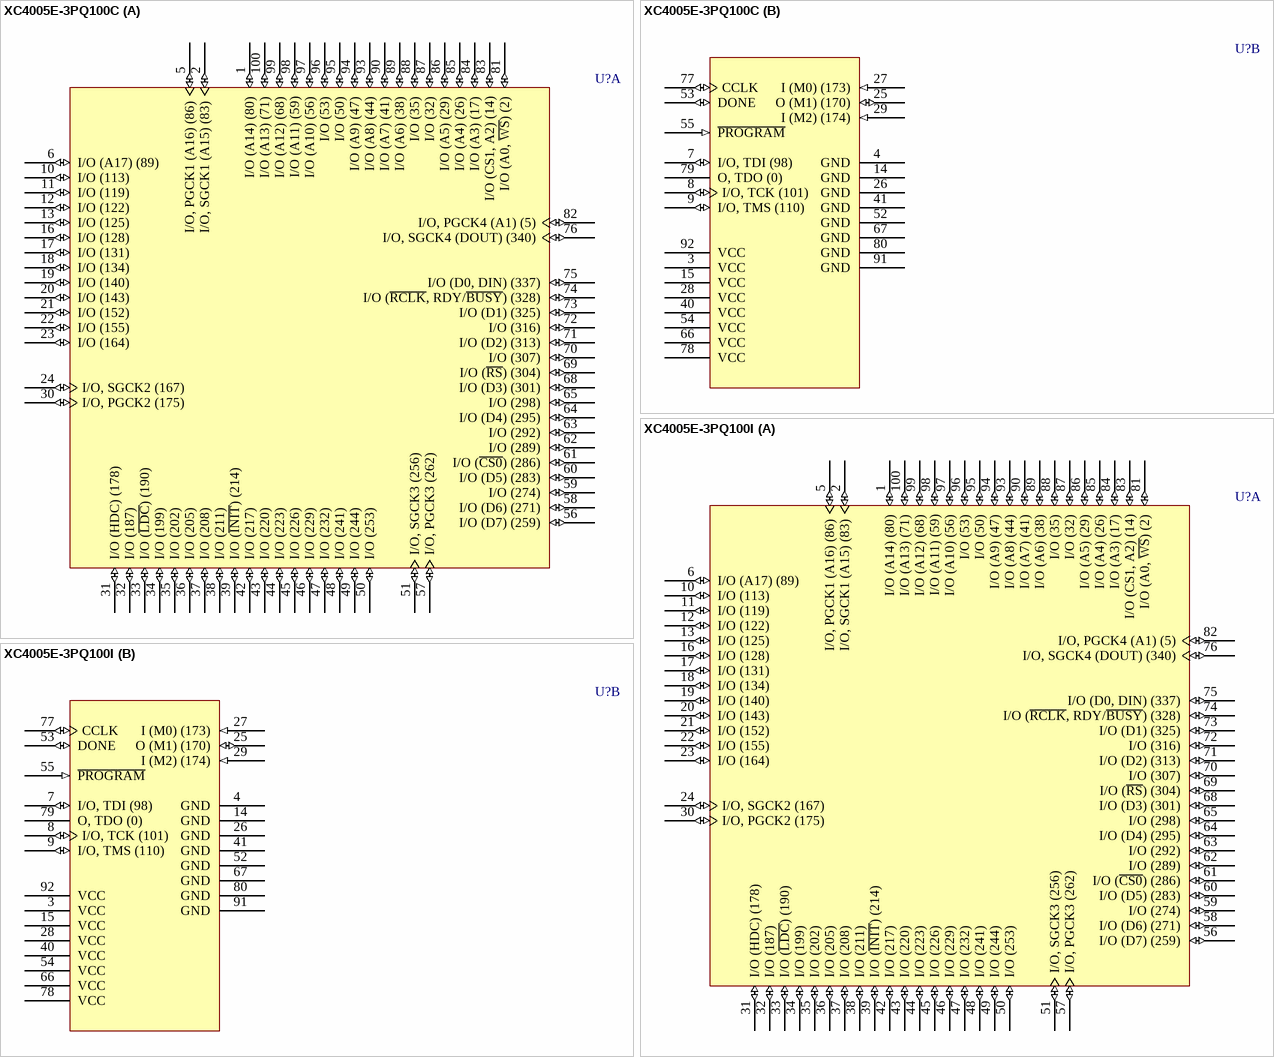
[diagram p26: symbols XC4005E-3PQ100C to XC4005E-3PQ100I]

## XC4005E-3PQ100C
designator U?
XC4000E FPGA, 100-Pin PQFP, Commercial Grade; ComponentAvailability: Not for New Design; Published: 28-Feb-2003; LatestRevisionDate: 13-Apr-2006; LatestRevisionNote: IPC-7351 Footprint Added.; DatasheetVersion: (v1.6) May-99; PackageVersion: ver1.2, Oct-2002; PackageReference: PQ100; Publisher: Altium Limited; PackageDescription: 100-Pin Plastic Quad Flat Pack (PQ100); Code_IPC: QFP65P1720X2320-100; ComponentLink1Description: Manufacturer Link; ComponentLink1URL: http://www.xilinx.com/; ComponentLink2Description: Datasheet; ComponentLink2URL: http://direct.xilinx.com/bvdocs/publications/4000.pdf
footprint PQ100_N (QFP, 100-Leads, Body 20x14mm, Pitch 0.65mm, IPC Medium Density)
footprint PQ100_L (QFP, 100-Leads, Body 20x14mm, Pitch 0.65mm, IPC High Density)
footprint PQ100_M (QFP, 100-Leads, Body 20x14mm, Pitch 0.65mm, IPC Low Density)
3D model XC4005E-PQ100 (100-Pin Plastic Quad Flat Pack (PQ100))
part A pins: 1 I/O (A14) (80) (io), 2 I/O, SGCK1 (A15) (83) (io), 5 I/O, PGCK1 (A16) (86) (io), 6 I/O (A17) (89) (io), 10 I/O (113) (io), 11 I/O (119) (io), 12 I/O (122) (io), 13 I/O (125) (io), 16 I/O (128) (io), 17 I/O (131) (io), 18 I/O (134) (io), 19 I/O (140) (io), 20 I/O (143) (io), 21 I/O (152) (io), 22 I/O (155) (io), 23 I/O (164) (io), 24 I/O, SGCK2 (167) (io), 30 I/O, PGCK2 (175) (io), 31 I/O (HDC) (178) (io), 32 I/O (187) (io), 33 I/O (~{LDC}) (190) (io), 34 I/O (199) (io), 35 I/O (202) (io), 36 I/O (205) (io), 37 I/O (208) (io), 38 I/O (211) (io), 39 I/O (~{INIT}) (214) (io), 42 I/O (217) (io), 43 I/O (220) (io), 44 I/O (223) (io), 45 I/O (226) (io), 46 I/O (229) (io), 47 I/O (232) (io), 48 I/O (241) (io), 49 I/O (244) (io), 50 I/O (253) (io), 51 I/O, SGCK3 (256) (io), 56 I/O (D7) (259) (io), 57 I/O, PGCK3 (262) (io), 58 I/O (D6) (271) (io), 59 I/O (274) (io), 60 I/O (D5) (283) (io), 61 I/O (~{CS0}) (286) (io), 62 I/O (289) (io), 63 I/O (292) (io), 64 I/O (D4) (295) (io), 65 I/O (298) (io), 68 I/O (D3) (301) (io), 69 I/O (~{RS}) (304) (io), 70 I/O (307) (io), 71 I/O (D2) (313) (io), 72 I/O (316) (io), 73 I/O (D1) (325) (io), 74 I/O (~{RCLK}, RDY/~{BUSY}) (328) (io), 75 I/O (D0, DIN) (337) (io), 76 I/O, SGCK4 (DOUT) (340) (io), 81 I/O (A0, ~{WS}) (2) (io), 82 I/O, PGCK4 (A1) (5) (io), 83 I/O (CS1, A2) (14) (io), 84 I/O (A3) (17) (io), 85 I/O (A4) (26) (io), 86 I/O (A5) (29) (io), 87 I/O (32) (io), 88 I/O (35) (io), 89 I/O (A6) (38) (io), 90 I/O (A7) (41) (io), 93 I/O (A8) (44) (io), 94 I/O (A9) (47) (io), 95 I/O (50) (io), 96 I/O (53) (io), 97 I/O (A10) (56) (io), 98 I/O (A11) (59) (io), 99 I/O (A12) (68) (io), 100 I/O (A13) (71) (io)
part B pins: 3 VCC (power), 4 GND (power), 7 I/O, TDI (98) (io), 8 I/O, TCK (101) (io), 9 I/O, TMS (110) (io), 14 GND (power), 15 VCC (power), 25 O (M1) (170) (io), 26 GND (power), 27 I (M0) (173) (in), 28 VCC (power), 29 I (M2) (174) (in), 40 VCC (power), 41 GND (power), 52 GND (power), 53 DONE (io), 54 VCC (power), 55 ~{PROGRAM} (in), 66 VCC (power), 67 GND (power), 77 CCLK (io), 78 VCC (power), 79 O, TDO (0) (hiz), 80 GND (power), 91 GND (power), 92 VCC (power)

## XC4005E-3PQ100I
designator U?
XC4000E FPGA, 100-Pin PQFP, Industrial Grade; ComponentAvailability: Not for New Design; Published: 28-Feb-2003; LatestRevisionDate: 13-Apr-2006; LatestRevisionNote: IPC-7351 Footprint Added.; DatasheetVersion: (v1.6) May-99; PackageVersion: ver1.2, Oct-2002; PackageReference: PQ100; Publisher: Altium Limited; PackageDescription: 100-Pin Plastic Quad Flat Pack (PQ100); Code_IPC: QFP65P1720X2320-100; ComponentLink1Description: Manufacturer Link; ComponentLink1URL: http://www.xilinx.com/; ComponentLink2Description: Datasheet; ComponentLink2URL: http://direct.xilinx.com/bvdocs/publications/4000.pdf
footprint PQ100_N (QFP, 100-Leads, Body 20x14mm, Pitch 0.65mm, IPC Medium Density)
footprint PQ100_L (QFP, 100-Leads, Body 20x14mm, Pitch 0.65mm, IPC High Density)
footprint PQ100_M (QFP, 100-Leads, Body 20x14mm, Pitch 0.65mm, IPC Low Density)
3D model XC4005E-PQ100 (100-Pin Plastic Quad Flat Pack (PQ100))
part A pins: 1 I/O (A14) (80) (io), 2 I/O, SGCK1 (A15) (83) (io), 5 I/O, PGCK1 (A16) (86) (io), 6 I/O (A17) (89) (io), 10 I/O (113) (io), 11 I/O (119) (io), 12 I/O (122) (io), 13 I/O (125) (io), 16 I/O (128) (io), 17 I/O (131) (io), 18 I/O (134) (io), 19 I/O (140) (io), 20 I/O (143) (io), 21 I/O (152) (io), 22 I/O (155) (io), 23 I/O (164) (io), 24 I/O, SGCK2 (167) (io), 30 I/O, PGCK2 (175) (io), 31 I/O (HDC) (178) (io), 32 I/O (187) (io), 33 I/O (~{LDC}) (190) (io), 34 I/O (199) (io), 35 I/O (202) (io), 36 I/O (205) (io), 37 I/O (208) (io), 38 I/O (211) (io), 39 I/O (~{INIT}) (214) (io), 42 I/O (217) (io), 43 I/O (220) (io), 44 I/O (223) (io), 45 I/O (226) (io), 46 I/O (229) (io), 47 I/O (232) (io), 48 I/O (241) (io), 49 I/O (244) (io), 50 I/O (253) (io), 51 I/O, SGCK3 (256) (io), 56 I/O (D7) (259) (io), 57 I/O, PGCK3 (262) (io), 58 I/O (D6) (271) (io), 59 I/O (274) (io), 60 I/O (D5) (283) (io), 61 I/O (~{CS0}) (286) (io), 62 I/O (289) (io), 63 I/O (292) (io), 64 I/O (D4) (295) (io), 65 I/O (298) (io), 68 I/O (D3) (301) (io), 69 I/O (~{RS}) (304) (io), 70 I/O (307) (io), 71 I/O (D2) (313) (io), 72 I/O (316) (io), 73 I/O (D1) (325) (io), 74 I/O (~{RCLK}, RDY/~{BUSY}) (328) (io), 75 I/O (D0, DIN) (337) (io), 76 I/O, SGCK4 (DOUT) (340) (io), 81 I/O (A0, ~{WS}) (2) (io), 82 I/O, PGCK4 (A1) (5) (io), 83 I/O (CS1, A2) (14) (io), 84 I/O (A3) (17) (io), 85 I/O (A4) (26) (io), 86 I/O (A5) (29) (io), 87 I/O (32) (io), 88 I/O (35) (io), 89 I/O (A6) (38) (io), 90 I/O (A7) (41) (io), 93 I/O (A8) (44) (io), 94 I/O (A9) (47) (io), 95 I/O (50) (io), 96 I/O (53) (io), 97 I/O (A10) (56) (io), 98 I/O (A11) (59) (io), 99 I/O (A12) (68) (io), 100 I/O (A13) (71) (io)
part B pins: 3 VCC (power), 4 GND (power), 7 I/O, TDI (98) (io), 8 I/O, TCK (101) (io), 9 I/O, TMS (110) (io), 14 GND (power), 15 VCC (power), 25 O (M1) (170) (io), 26 GND (power), 27 I (M0) (173) (in), 28 VCC (power), 29 I (M2) (174) (in), 40 VCC (power), 41 GND (power), 52 GND (power), 53 DONE (io), 54 VCC (power), 55 ~{PROGRAM} (in), 66 VCC (power), 67 GND (power), 77 CCLK (io), 78 VCC (power), 79 O, TDO (0) (hiz), 80 GND (power), 91 GND (power), 92 VCC (power)

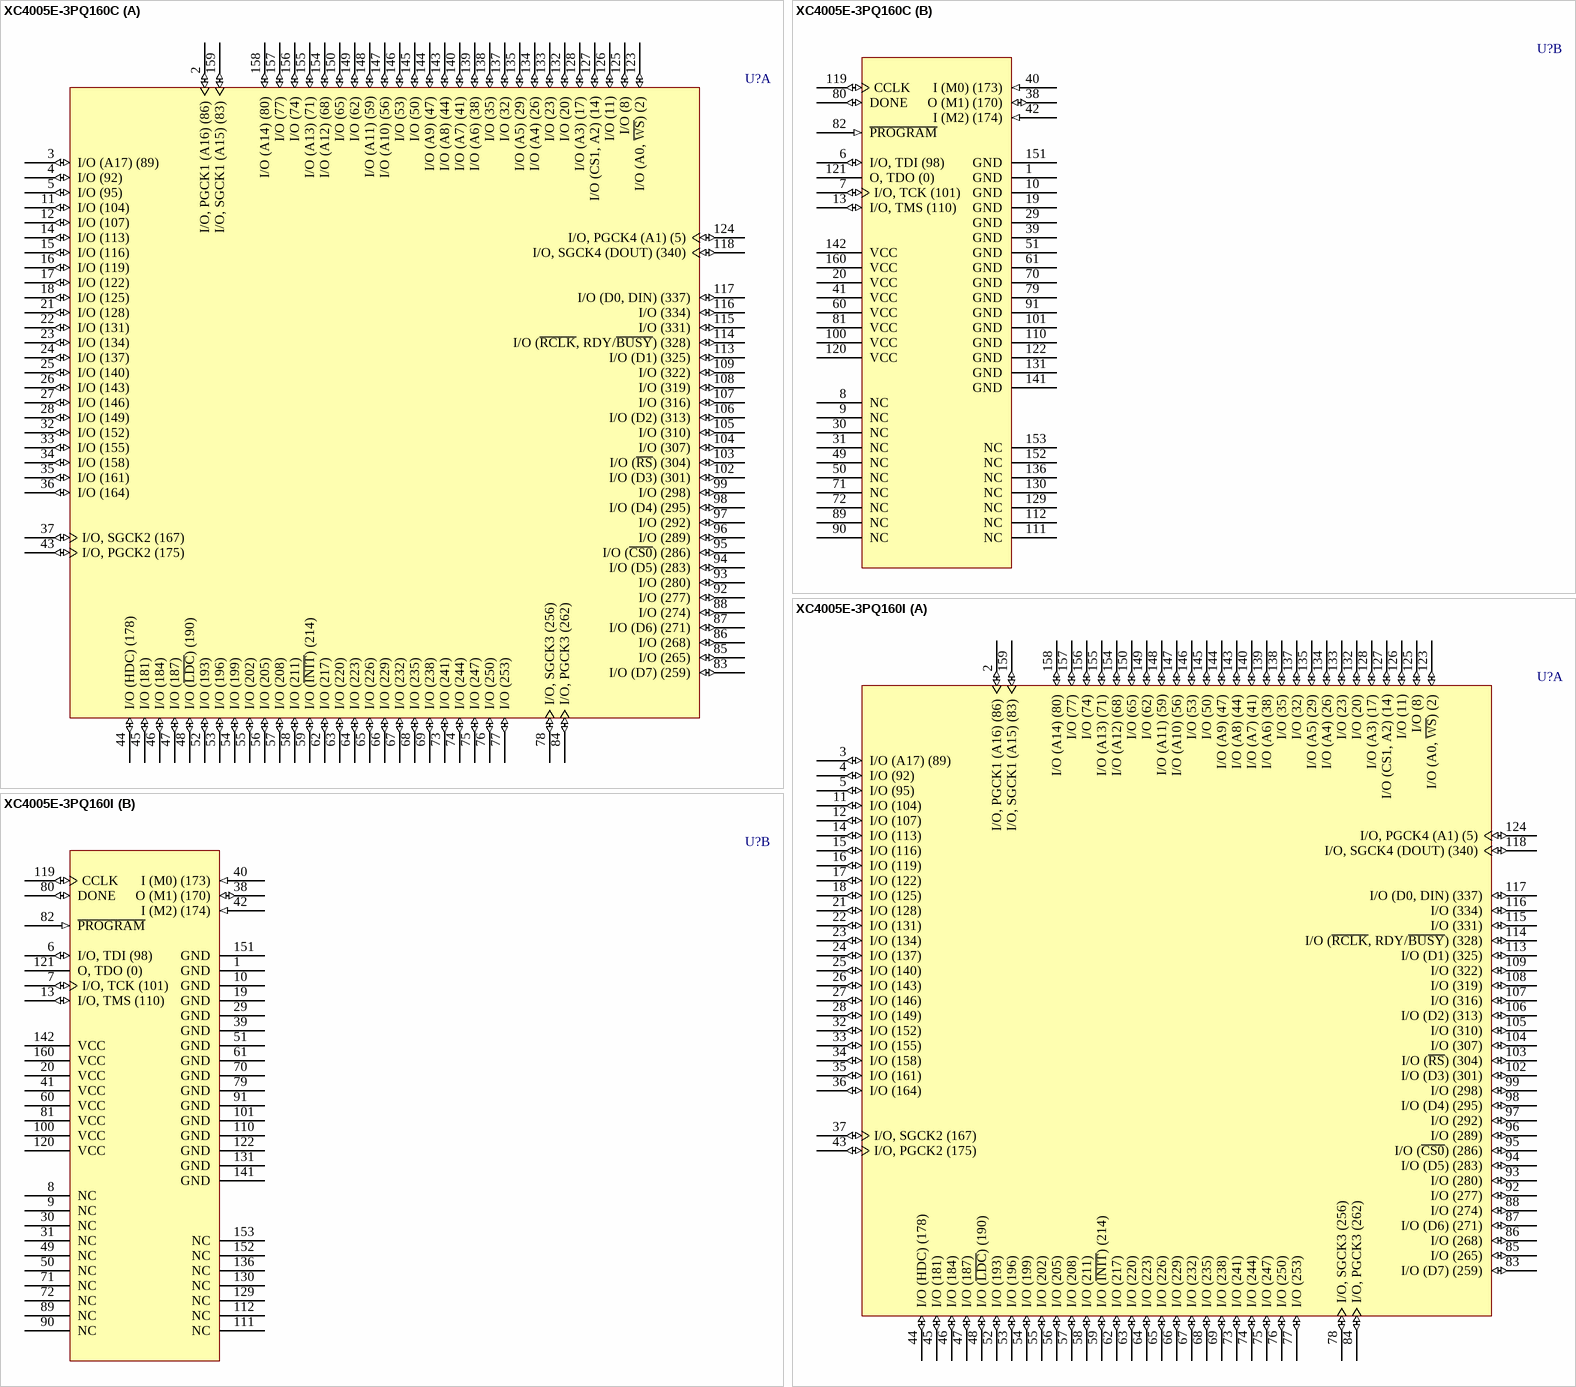
[diagram p27: symbols XC4005E-3PQ160C to XC4005E-3PQ160I]

## XC4005E-3PQ160C
designator U?
XC4000E FPGA, 160-Pin PQFP, Commercial Grade; ComponentAvailability: Not for New Design; Published: 28-Feb-2003; LatestRevisionDate: 13-Apr-2006; LatestRevisionNote: IPC-7351 Footprint Added.; DatasheetVersion: (v1.6) May-99; PackageVersion: ver1.2, Jun-2004; PackageReference: PQ160; Publisher: Altium Limited; PackageDescription: 160-Pin Plastic Quad Flat Pack (PQ160); Code_JEDEC: MS-022-DD1; Code_IPC: QFP65P3120X3120-160; ComponentLink1Description: Manufacturer Link; ComponentLink1URL: http://www.xilinx.com/; ComponentLink2Description: Datasheet; ComponentLink2URL: http://direct.xilinx.com/bvdocs/publications/4000.pdf
footprint PQ160_N (QFP, 160-Leads, Body 28 x 28mm, Pitch 0.65mm, IPC Medium Density)
footprint PQ160_L (QFP, 160-Leads, Body 28 x 28mm, Pitch 0.65mm, IPC High Density)
footprint PQ160_M (QFP, 160-Leads, Body 28 x 28mm, Pitch 0.65mm, IPC Low Density)
3D model XC4005E-PQ160 (160-Pin Plastic Quad Flat Pack (PQ160))
part A pins: 2 I/O, PGCK1 (A16) (86) (io), 3 I/O (A17) (89) (io), 4 I/O (92) (io), 5 I/O (95) (io), 11 I/O (104) (io), 12 I/O (107) (io), 14 I/O (113) (io), 15 I/O (116) (io), 16 I/O (119) (io), 17 I/O (122) (io), 18 I/O (125) (io), 21 I/O (128) (io), 22 I/O (131) (io), 23 I/O (134) (io), 24 I/O (137) (io), 25 I/O (140) (io), 26 I/O (143) (io), 27 I/O (146) (io), 28 I/O (149) (io), 32 I/O (152) (io), 33 I/O (155) (io), 34 I/O (158) (io), 35 I/O (161) (io), 36 I/O (164) (io), 37 I/O, SGCK2 (167) (io), 43 I/O, PGCK2 (175) (io), 44 I/O (HDC) (178) (io), 45 I/O (181) (io), 46 I/O (184) (io), 47 I/O (187) (io), 48 I/O (~{LDC}) (190) (io), 52 I/O (193) (io), 53 I/O (196) (io), 54 I/O (199) (io), 55 I/O (202) (io), 56 I/O (205) (io), 57 I/O (208) (io), 58 I/O (211) (io), 59 I/O (~{INIT}) (214) (io), 62 I/O (217) (io), 63 I/O (220) (io), 64 I/O (223) (io), 65 I/O (226) (io), 66 I/O (229) (io), 67 I/O (232) (io), 68 I/O (235) (io), 69 I/O (238) (io), 73 I/O (241) (io), 74 I/O (244) (io), 75 I/O (247) (io), 76 I/O (250) (io), 77 I/O (253) (io), 78 I/O, SGCK3 (256) (io), 83 I/O (D7) (259) (io), 84 I/O, PGCK3 (262) (io), 85 I/O (265) (io), 86 I/O (268) (io), 87 I/O (D6) (271) (io), 88 I/O (274) (io), 92 I/O (277) (io), 93 I/O (280) (io), 94 I/O (D5) (283) (io), 95 I/O (~{CS0}) (286) (io), 96 I/O (289) (io), 97 I/O (292) (io), 98 I/O (D4) (295) (io), 99 I/O (298) (io), 102 I/O (D3) (301) (io), 103 I/O (~{RS}) (304) (io), 104 I/O (307) (io), 105 I/O (310) (io), 106 I/O (D2) (313) (io), 107 I/O (316) (io), 108 I/O (319) (io), 109 I/O (322) (io), 113 I/O (D1) (325) (io), 114 I/O (~{RCLK}, RDY/~{BUSY}) (328) (io), 115 I/O (331) (io), 116 I/O (334) (io), 117 I/O (D0, DIN) (337) (io), 118 I/O, SGCK4 (DOUT) (340) (io), 123 I/O (A0, ~{WS}) (2) (io), 124 I/O, PGCK4 (A1) (5) (io), 125 I/O (8) (io), 126 I/O (11) (io), 127 I/O (CS1, A2) (14) (io), 128 I/O (A3) (17) (io), 132 I/O (20) (io), 133 I/O (23) (io), 134 I/O (A4) (26) (io), 135 I/O (A5) (29) (io), 137 I/O (32) (io), 138 I/O (35) (io), 139 I/O (A6) (38) (io), 140 I/O (A7) (41) (io), 143 I/O (A8) (44) (io), 144 I/O (A9) (47) (io), 145 I/O (50) (io), 146 I/O (53) (io), 147 I/O (A10) (56) (io), 148 I/O (A11) (59) (io), 149 I/O (62) (io), 150 I/O (65) (io), 154 I/O (A12) (68) (io), 155 I/O (A13) (71) (io), 156 I/O (74) (io), 157 I/O (77) (io), 158 I/O (A14) (80) (io), 159 I/O, SGCK1 (A15) (83) (io)
part B pins: 1 GND (power), 6 I/O, TDI (98) (io), 7 I/O, TCK (101) (io), 8 NC, 9 NC, 10 GND (power), 13 I/O, TMS (110) (io), 19 GND (power), 20 VCC (power), 29 GND (power), 30 NC, 31 NC, 38 O (M1) (170) (io), 39 GND (power), 40 I (M0) (173) (in), 41 VCC (power), 42 I (M2) (174) (in), 49 NC, 50 NC, 51 GND (power), 60 VCC (power), 61 GND (power), 70 GND (power), 71 NC, 72 NC, 79 GND (power), 80 DONE (io), 81 VCC (power), 82 ~{PROGRAM} (in), 89 NC, 90 NC, 91 GND (power), 100 VCC (power), 101 GND (power), 110 GND (power), 111 NC, 112 NC, 119 CCLK (io), 120 VCC (power), 121 O, TDO (0) (hiz), 122 GND (power), 129 NC, 130 NC, 131 GND (power), 136 NC, 141 GND (power), 142 VCC (power), 151 GND (power), 152 NC, 153 NC, 160 VCC (power)

## XC4005E-3PQ160I
designator U?
XC4000E FPGA, 160-Pin PQFP, Industrial Grade; ComponentAvailability: Not for New Design; Published: 28-Feb-2003; LatestRevisionDate: 13-Apr-2006; LatestRevisionNote: IPC-7351 Footprint Added.; DatasheetVersion: (v1.6) May-99; PackageVersion: ver1.2, Jun-2004; PackageReference: PQ160; Publisher: Altium Limited; PackageDescription: 160-Pin Plastic Quad Flat Pack (PQ160); Code_JEDEC: MS-022-DD1; Code_IPC: QFP65P3120X3120-160; ComponentLink1Description: Manufacturer Link; ComponentLink1URL: http://www.xilinx.com/; ComponentLink2Description: Datasheet; ComponentLink2URL: http://direct.xilinx.com/bvdocs/publications/4000.pdf
footprint PQ160_N (QFP, 160-Leads, Body 28 x 28mm, Pitch 0.65mm, IPC Medium Density)
footprint PQ160_L (QFP, 160-Leads, Body 28 x 28mm, Pitch 0.65mm, IPC High Density)
footprint PQ160_M (QFP, 160-Leads, Body 28 x 28mm, Pitch 0.65mm, IPC Low Density)
3D model XC4005E-PQ160 (160-Pin Plastic Quad Flat Pack (PQ160))
part A pins: 2 I/O, PGCK1 (A16) (86) (io), 3 I/O (A17) (89) (io), 4 I/O (92) (io), 5 I/O (95) (io), 11 I/O (104) (io), 12 I/O (107) (io), 14 I/O (113) (io), 15 I/O (116) (io), 16 I/O (119) (io), 17 I/O (122) (io), 18 I/O (125) (io), 21 I/O (128) (io), 22 I/O (131) (io), 23 I/O (134) (io), 24 I/O (137) (io), 25 I/O (140) (io), 26 I/O (143) (io), 27 I/O (146) (io), 28 I/O (149) (io), 32 I/O (152) (io), 33 I/O (155) (io), 34 I/O (158) (io), 35 I/O (161) (io), 36 I/O (164) (io), 37 I/O, SGCK2 (167) (io), 43 I/O, PGCK2 (175) (io), 44 I/O (HDC) (178) (io), 45 I/O (181) (io), 46 I/O (184) (io), 47 I/O (187) (io), 48 I/O (~{LDC}) (190) (io), 52 I/O (193) (io), 53 I/O (196) (io), 54 I/O (199) (io), 55 I/O (202) (io), 56 I/O (205) (io), 57 I/O (208) (io), 58 I/O (211) (io), 59 I/O (~{INIT}) (214) (io), 62 I/O (217) (io), 63 I/O (220) (io), 64 I/O (223) (io), 65 I/O (226) (io), 66 I/O (229) (io), 67 I/O (232) (io), 68 I/O (235) (io), 69 I/O (238) (io), 73 I/O (241) (io), 74 I/O (244) (io), 75 I/O (247) (io), 76 I/O (250) (io), 77 I/O (253) (io), 78 I/O, SGCK3 (256) (io), 83 I/O (D7) (259) (io), 84 I/O, PGCK3 (262) (io), 85 I/O (265) (io), 86 I/O (268) (io), 87 I/O (D6) (271) (io), 88 I/O (274) (io), 92 I/O (277) (io), 93 I/O (280) (io), 94 I/O (D5) (283) (io), 95 I/O (~{CS0}) (286) (io), 96 I/O (289) (io), 97 I/O (292) (io), 98 I/O (D4) (295) (io), 99 I/O (298) (io), 102 I/O (D3) (301) (io), 103 I/O (~{RS}) (304) (io), 104 I/O (307) (io), 105 I/O (310) (io), 106 I/O (D2) (313) (io), 107 I/O (316) (io), 108 I/O (319) (io), 109 I/O (322) (io), 113 I/O (D1) (325) (io), 114 I/O (~{RCLK}, RDY/~{BUSY}) (328) (io), 115 I/O (331) (io), 116 I/O (334) (io), 117 I/O (D0, DIN) (337) (io), 118 I/O, SGCK4 (DOUT) (340) (io), 123 I/O (A0, ~{WS}) (2) (io), 124 I/O, PGCK4 (A1) (5) (io), 125 I/O (8) (io), 126 I/O (11) (io), 127 I/O (CS1, A2) (14) (io), 128 I/O (A3) (17) (io), 132 I/O (20) (io), 133 I/O (23) (io), 134 I/O (A4) (26) (io), 135 I/O (A5) (29) (io), 137 I/O (32) (io), 138 I/O (35) (io), 139 I/O (A6) (38) (io), 140 I/O (A7) (41) (io), 143 I/O (A8) (44) (io), 144 I/O (A9) (47) (io), 145 I/O (50) (io), 146 I/O (53) (io), 147 I/O (A10) (56) (io), 148 I/O (A11) (59) (io), 149 I/O (62) (io), 150 I/O (65) (io), 154 I/O (A12) (68) (io), 155 I/O (A13) (71) (io), 156 I/O (74) (io), 157 I/O (77) (io), 158 I/O (A14) (80) (io), 159 I/O, SGCK1 (A15) (83) (io)
part B pins: 1 GND (power), 6 I/O, TDI (98) (io), 7 I/O, TCK (101) (io), 8 NC, 9 NC, 10 GND (power), 13 I/O, TMS (110) (io), 19 GND (power), 20 VCC (power), 29 GND (power), 30 NC, 31 NC, 38 O (M1) (170) (io), 39 GND (power), 40 I (M0) (173) (in), 41 VCC (power), 42 I (M2) (174) (in), 49 NC, 50 NC, 51 GND (power), 60 VCC (power), 61 GND (power), 70 GND (power), 71 NC, 72 NC, 79 GND (power), 80 DONE (io), 81 VCC (power), 82 ~{PROGRAM} (in), 89 NC, 90 NC, 91 GND (power), 100 VCC (power), 101 GND (power), 110 GND (power), 111 NC, 112 NC, 119 CCLK (io), 120 VCC (power), 121 O, TDO (0) (hiz), 122 GND (power), 129 NC, 130 NC, 131 GND (power), 136 NC, 141 GND (power), 142 VCC (power), 151 GND (power), 152 NC, 153 NC, 160 VCC (power)

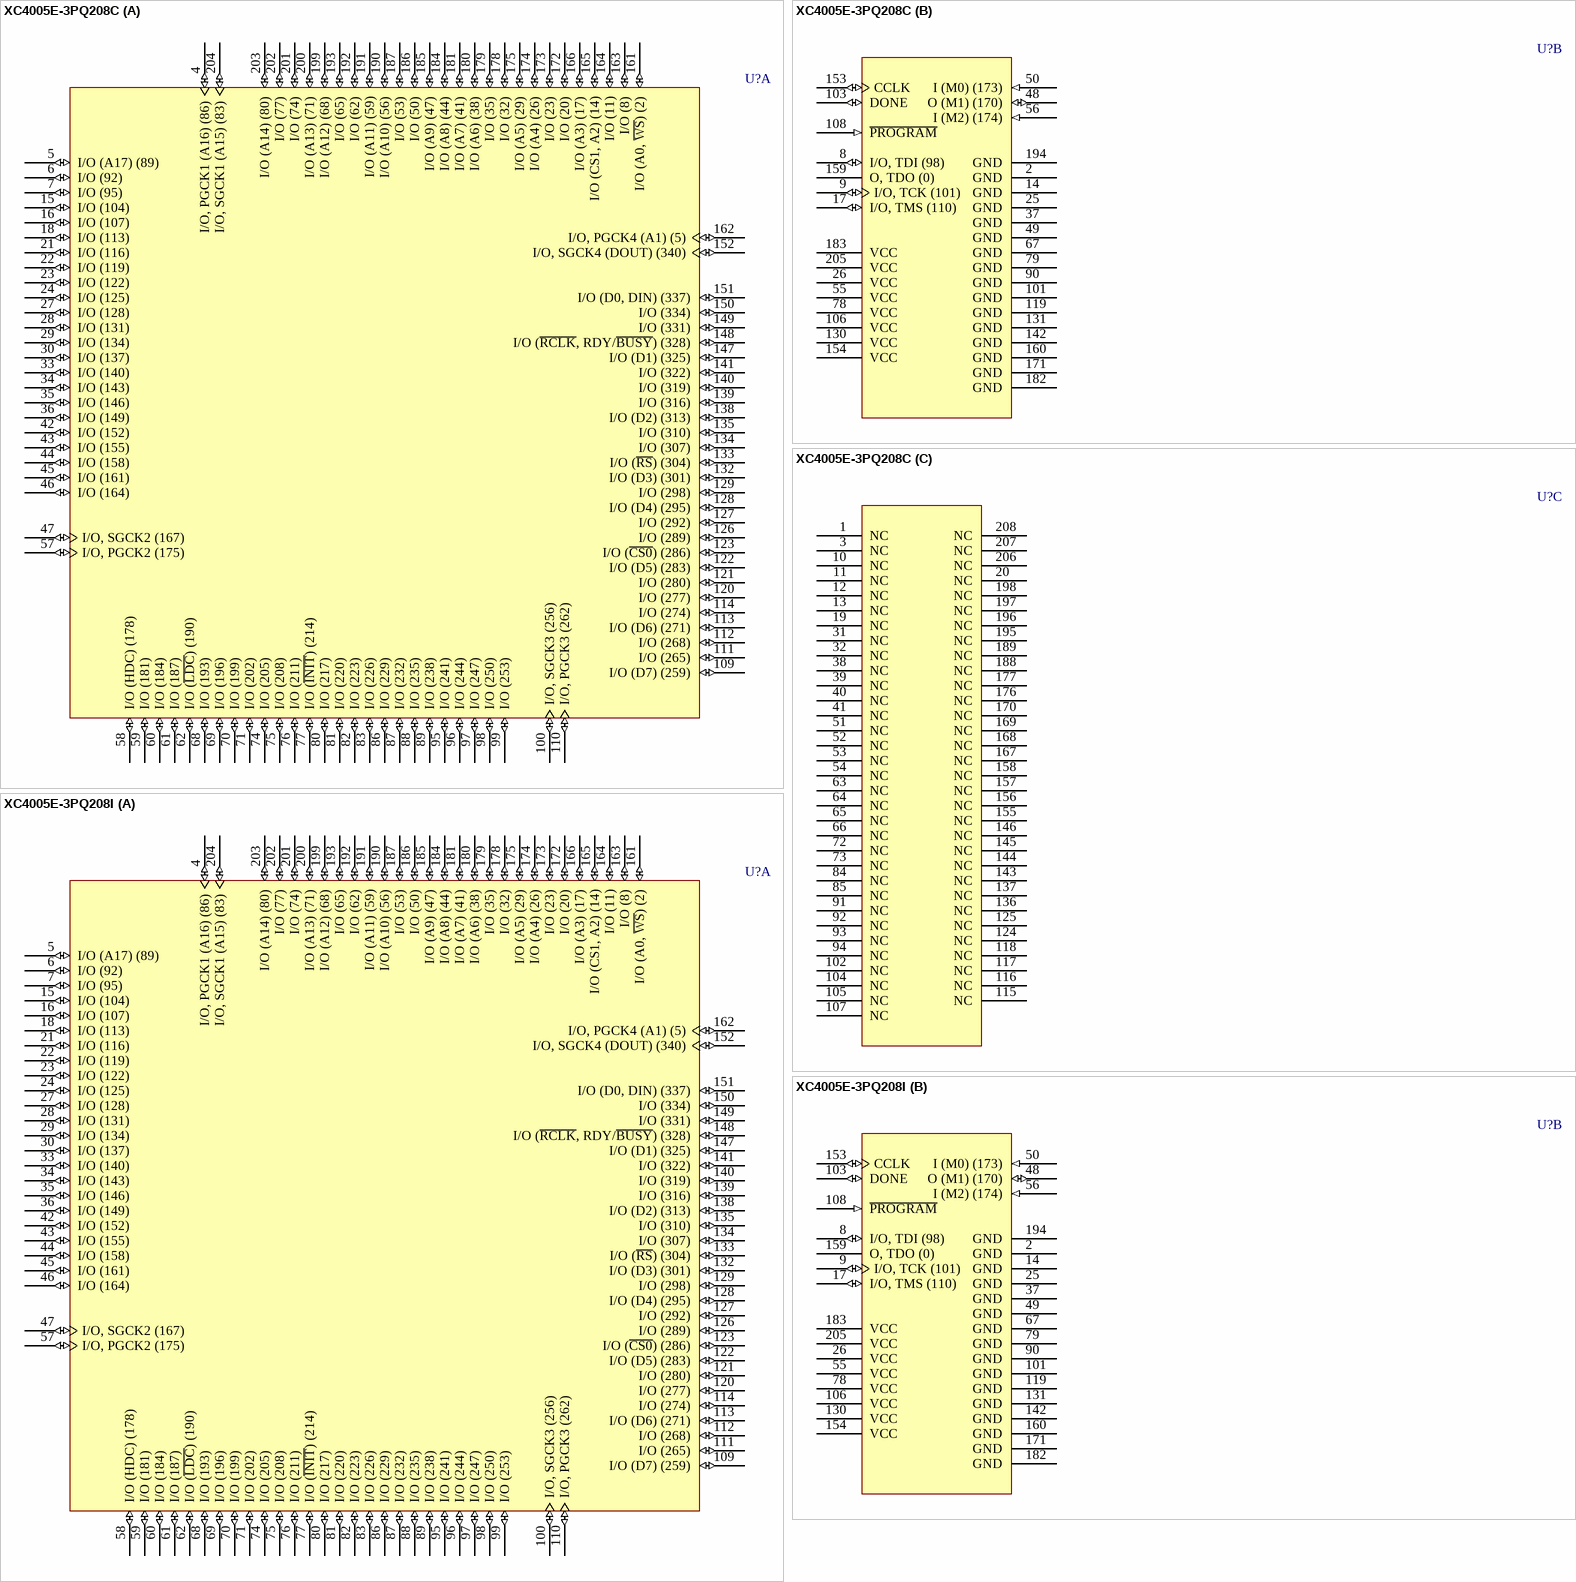
[diagram p28: symbols XC4005E-3PQ208C to XC4005E-3PQ208I]

## XC4005E-3PQ208C
designator U?
XC4000E FPGA, 208-Pin PQFP, Commercial Grade; ComponentAvailability: Not for New Design; Published: 28-Feb-2003; LatestRevisionDate: 13-Apr-2006; LatestRevisionNote: IPC-7351 Footprint Added.; DatasheetVersion: (v1.6) May-99; PackageVersion: ver1.2, Jun-2004; PackageReference: PQ208; Publisher: Altium Limited; PackageDescription: 208-Pin Plastic Quad Flat Pack (PQ208); Code_JEDEC: MS-029-FA-1; ComponentLink1Description: Manufacturer Link; ComponentLink1URL: http://www.xilinx.com/; ComponentLink2Description: Datasheet; ComponentLink2URL: http://direct.xilinx.com/bvdocs/publications/4000.pdf; ComponentLink3Description: Discontinuation Notice; ComponentLink3URL: http://direct.xilinx.com/bvdocs/notifications/pdn2004-21.pdf
footprint PQ208_N (Shrink QFP, 208-Leads, Body 28x28mm, Pitch 0.5mm, IPC Medium Density)
footprint PQ208_L (Shrink QFP, 208-Leads, Body 28x28mm, Pitch 0.5mm, IPC High Density)
footprint PQ208_M (Shrink QFP, 208-Leads, Body 28x28mm, Pitch 0.5mm, IPC Low Density)
3D model XC4005E-PQ208 (208-Pin Plastic Quad Flat Pack (PQ208))
part A pins: 4 I/O, PGCK1 (A16) (86) (io), 5 I/O (A17) (89) (io), 6 I/O (92) (io), 7 I/O (95) (io), 15 I/O (104) (io), 16 I/O (107) (io), 18 I/O (113) (io), 21 I/O (116) (io), 22 I/O (119) (io), 23 I/O (122) (io), 24 I/O (125) (io), 27 I/O (128) (io), 28 I/O (131) (io), 29 I/O (134) (io), 30 I/O (137) (io), 33 I/O (140) (io), 34 I/O (143) (io), 35 I/O (146) (io), 36 I/O (149) (io), 42 I/O (152) (io), 43 I/O (155) (io), 44 I/O (158) (io), 45 I/O (161) (io), 46 I/O (164) (io), 47 I/O, SGCK2 (167) (io), 57 I/O, PGCK2 (175) (io), 58 I/O (HDC) (178) (io), 59 I/O (181) (io), 60 I/O (184) (io), 61 I/O (187) (io), 62 I/O (~{LDC}) (190) (io), 68 I/O (193) (io), 69 I/O (196) (io), 70 I/O (199) (io), 71 I/O (202) (io), 74 I/O (205) (io), 75 I/O (208) (io), 76 I/O (211) (io), 77 I/O (~{INIT}) (214) (io), 80 I/O (217) (io), 81 I/O (220) (io), 82 I/O (223) (io), 83 I/O (226) (io), 86 I/O (229) (io), 87 I/O (232) (io), 88 I/O (235) (io), 89 I/O (238) (io), 95 I/O (241) (io), 96 I/O (244) (io), 97 I/O (247) (io), 98 I/O (250) (io), 99 I/O (253) (io), 100 I/O, SGCK3 (256) (io), 109 I/O (D7) (259) (io), 110 I/O, PGCK3 (262) (io), 111 I/O (265) (io), 112 I/O (268) (io), 113 I/O (D6) (271) (io), 114 I/O (274) (io), 120 I/O (277) (io), 121 I/O (280) (io), 122 I/O (D5) (283) (io), 123 I/O (~{CS0}) (286) (io), 126 I/O (289) (io), 127 I/O (292) (io), 128 I/O (D4) (295) (io), 129 I/O (298) (io), 132 I/O (D3) (301) (io), 133 I/O (~{RS}) (304) (io), 134 I/O (307) (io), 135 I/O (310) (io), 138 I/O (D2) (313) (io), 139 I/O (316) (io), 140 I/O (319) (io), 141 I/O (322) (io), 147 I/O (D1) (325) (io), 148 I/O (~{RCLK}, RDY/~{BUSY}) (328) (io), 149 I/O (331) (io), 150 I/O (334) (io), 151 I/O (D0, DIN) (337) (io), 152 I/O, SGCK4 (DOUT) (340) (io), 161 I/O (A0, ~{WS}) (2) (io), 162 I/O, PGCK4 (A1) (5) (io), 163 I/O (8) (io), 164 I/O (11) (io), 165 I/O (CS1, A2) (14) (io), 166 I/O (A3) (17) (io), 172 I/O (20) (io), 173 I/O (23) (io), 174 I/O (A4) (26) (io), 175 I/O (A5) (29) (io), 178 I/O (32) (io), 179 I/O (35) (io), 180 I/O (A6) (38) (io), 181 I/O (A7) (41) (io), 184 I/O (A8) (44) (io), 185 I/O (A9) (47) (io), 186 I/O (50) (io), 187 I/O (53) (io), 190 I/O (A10) (56) (io), 191 I/O (A11) (59) (io), 192 I/O (62) (io), 193 I/O (65) (io), 199 I/O (A12) (68) (io), 200 I/O (A13) (71) (io), 201 I/O (74) (io), 202 I/O (77) (io), 203 I/O (A14) (80) (io), 204 I/O, SGCK1 (A15) (83) (io)
part B pins: 2 GND (power), 8 I/O, TDI (98) (io), 9 I/O, TCK (101) (io), 14 GND (power), 17 I/O, TMS (110) (io), 25 GND (power), 26 VCC (power), 37 GND (power), 48 O (M1) (170) (io), 49 GND (power), 50 I (M0) (173) (in), 55 VCC (power), 56 I (M2) (174) (in), 67 GND (power), 78 VCC (power), 79 GND (power), 90 GND (power), 101 GND (power), 103 DONE (io), 106 VCC (power), 108 ~{PROGRAM} (in), 119 GND (power), 130 VCC (power), 131 GND (power), 142 GND (power), 153 CCLK (io), 154 VCC (power), 159 O, TDO (0) (hiz), 160 GND (power), 171 GND (power), 182 GND (power), 183 VCC (power), 194 GND (power), 205 VCC (power)
part C pins: 1 NC, 3 NC, 10 NC, 11 NC, 12 NC, 13 NC, 19 NC, 20 NC, 31 NC, 32 NC, 38 NC, 39 NC, 40 NC, 41 NC, 51 NC, 52 NC, 53 NC, 54 NC, 63 NC, 64 NC, 65 NC, 66 NC, 72 NC, 73 NC, 84 NC, 85 NC, 91 NC, 92 NC, 93 NC, 94 NC, 102 NC, 104 NC, 105 NC, 107 NC, 115 NC, 116 NC, 117 NC, 118 NC, 124 NC, 125 NC, 136 NC, 137 NC, 143 NC, 144 NC, 145 NC, 146 NC, 155 NC, 156 NC, 157 NC, 158 NC, 167 NC, 168 NC, 169 NC, 170 NC, 176 NC, 177 NC, 188 NC, 189 NC, 195 NC, 196 NC, 197 NC, 198 NC, 206 NC, 207 NC, 208 NC

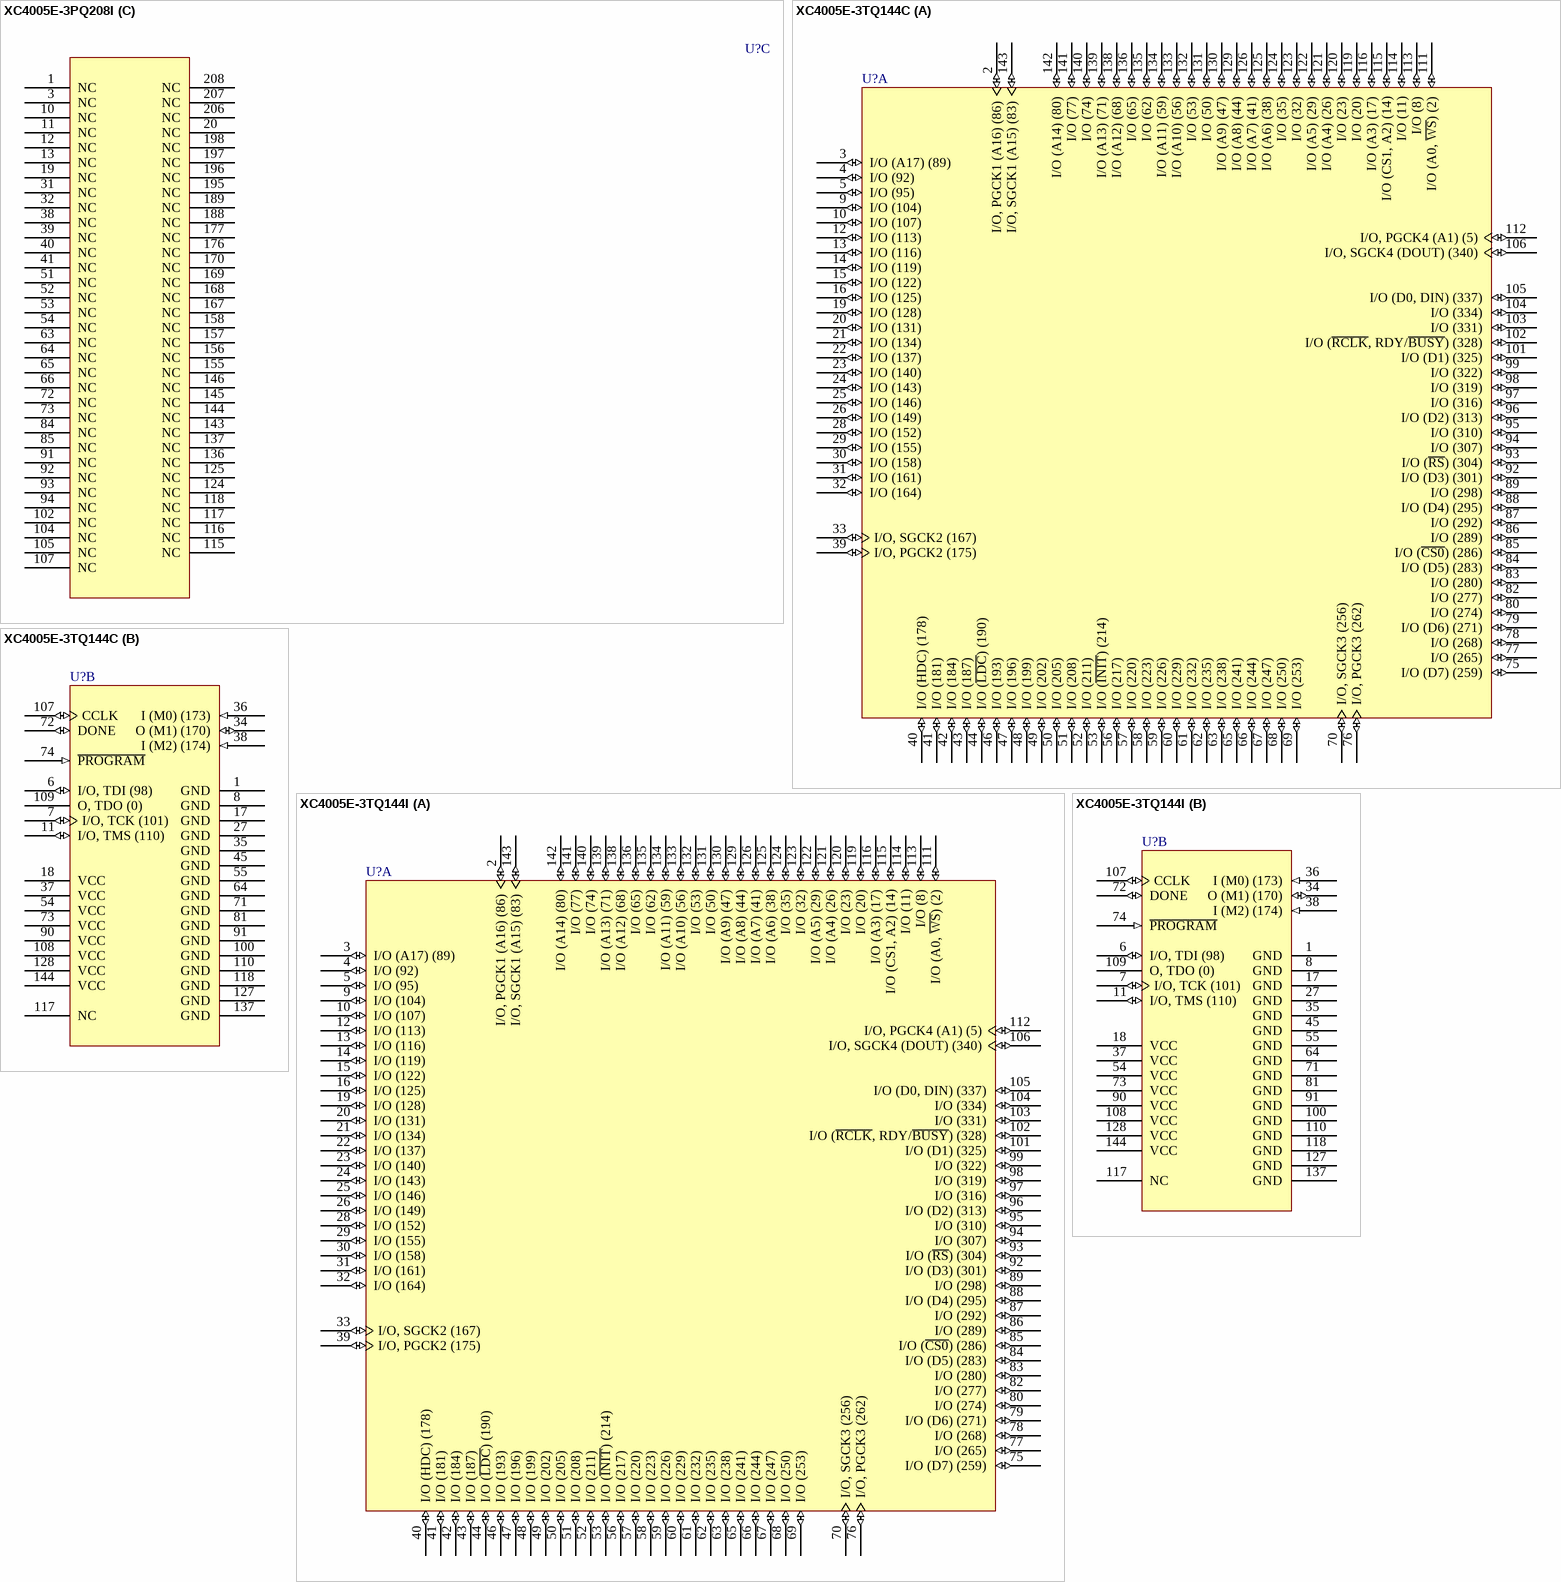
[diagram p29: symbols XC4005E-3PQ208I to XC4005E-3TQ144I]

## XC4005E-3PQ208I
designator U?
XC4000E FPGA, 208-Pin PQFP, Industrial Grade; ComponentAvailability: Not for New Design; Published: 28-Feb-2003; LatestRevisionDate: 13-Apr-2006; LatestRevisionNote: IPC-7351 Footprint Added.; DatasheetVersion: (v1.6) May-99; PackageVersion: ver1.2, Jun-2004; PackageReference: PQ208; Publisher: Altium Limited; PackageDescription: 208-Pin Plastic Quad Flat Pack (PQ208); Code_JEDEC: MS-029-FA-1; ComponentLink1Description: Manufacturer Link; ComponentLink1URL: http://www.xilinx.com/; ComponentLink2Description: Datasheet; ComponentLink2URL: http://direct.xilinx.com/bvdocs/publications/4000.pdf; ComponentLink3Description: Discontinuation Notice; ComponentLink3URL: http://direct.xilinx.com/bvdocs/notifications/pdn2004-21.pdf
footprint PQ208_N (Shrink QFP, 208-Leads, Body 28x28mm, Pitch 0.5mm, IPC Medium Density)
footprint PQ208_L (Shrink QFP, 208-Leads, Body 28x28mm, Pitch 0.5mm, IPC High Density)
footprint PQ208_M (Shrink QFP, 208-Leads, Body 28x28mm, Pitch 0.5mm, IPC Low Density)
3D model XC4005E-PQ208 (208-Pin Plastic Quad Flat Pack (PQ208))
part A pins: 4 I/O, PGCK1 (A16) (86) (io), 5 I/O (A17) (89) (io), 6 I/O (92) (io), 7 I/O (95) (io), 15 I/O (104) (io), 16 I/O (107) (io), 18 I/O (113) (io), 21 I/O (116) (io), 22 I/O (119) (io), 23 I/O (122) (io), 24 I/O (125) (io), 27 I/O (128) (io), 28 I/O (131) (io), 29 I/O (134) (io), 30 I/O (137) (io), 33 I/O (140) (io), 34 I/O (143) (io), 35 I/O (146) (io), 36 I/O (149) (io), 42 I/O (152) (io), 43 I/O (155) (io), 44 I/O (158) (io), 45 I/O (161) (io), 46 I/O (164) (io), 47 I/O, SGCK2 (167) (io), 57 I/O, PGCK2 (175) (io), 58 I/O (HDC) (178) (io), 59 I/O (181) (io), 60 I/O (184) (io), 61 I/O (187) (io), 62 I/O (~{LDC}) (190) (io), 68 I/O (193) (io), 69 I/O (196) (io), 70 I/O (199) (io), 71 I/O (202) (io), 74 I/O (205) (io), 75 I/O (208) (io), 76 I/O (211) (io), 77 I/O (~{INIT}) (214) (io), 80 I/O (217) (io), 81 I/O (220) (io), 82 I/O (223) (io), 83 I/O (226) (io), 86 I/O (229) (io), 87 I/O (232) (io), 88 I/O (235) (io), 89 I/O (238) (io), 95 I/O (241) (io), 96 I/O (244) (io), 97 I/O (247) (io), 98 I/O (250) (io), 99 I/O (253) (io), 100 I/O, SGCK3 (256) (io), 109 I/O (D7) (259) (io), 110 I/O, PGCK3 (262) (io), 111 I/O (265) (io), 112 I/O (268) (io), 113 I/O (D6) (271) (io), 114 I/O (274) (io), 120 I/O (277) (io), 121 I/O (280) (io), 122 I/O (D5) (283) (io), 123 I/O (~{CS0}) (286) (io), 126 I/O (289) (io), 127 I/O (292) (io), 128 I/O (D4) (295) (io), 129 I/O (298) (io), 132 I/O (D3) (301) (io), 133 I/O (~{RS}) (304) (io), 134 I/O (307) (io), 135 I/O (310) (io), 138 I/O (D2) (313) (io), 139 I/O (316) (io), 140 I/O (319) (io), 141 I/O (322) (io), 147 I/O (D1) (325) (io), 148 I/O (~{RCLK}, RDY/~{BUSY}) (328) (io), 149 I/O (331) (io), 150 I/O (334) (io), 151 I/O (D0, DIN) (337) (io), 152 I/O, SGCK4 (DOUT) (340) (io), 161 I/O (A0, ~{WS}) (2) (io), 162 I/O, PGCK4 (A1) (5) (io), 163 I/O (8) (io), 164 I/O (11) (io), 165 I/O (CS1, A2) (14) (io), 166 I/O (A3) (17) (io), 172 I/O (20) (io), 173 I/O (23) (io), 174 I/O (A4) (26) (io), 175 I/O (A5) (29) (io), 178 I/O (32) (io), 179 I/O (35) (io), 180 I/O (A6) (38) (io), 181 I/O (A7) (41) (io), 184 I/O (A8) (44) (io), 185 I/O (A9) (47) (io), 186 I/O (50) (io), 187 I/O (53) (io), 190 I/O (A10) (56) (io), 191 I/O (A11) (59) (io), 192 I/O (62) (io), 193 I/O (65) (io), 199 I/O (A12) (68) (io), 200 I/O (A13) (71) (io), 201 I/O (74) (io), 202 I/O (77) (io), 203 I/O (A14) (80) (io), 204 I/O, SGCK1 (A15) (83) (io)
part B pins: 2 GND (power), 8 I/O, TDI (98) (io), 9 I/O, TCK (101) (io), 14 GND (power), 17 I/O, TMS (110) (io), 25 GND (power), 26 VCC (power), 37 GND (power), 48 O (M1) (170) (io), 49 GND (power), 50 I (M0) (173) (in), 55 VCC (power), 56 I (M2) (174) (in), 67 GND (power), 78 VCC (power), 79 GND (power), 90 GND (power), 101 GND (power), 103 DONE (io), 106 VCC (power), 108 ~{PROGRAM} (in), 119 GND (power), 130 VCC (power), 131 GND (power), 142 GND (power), 153 CCLK (io), 154 VCC (power), 159 O, TDO (0) (hiz), 160 GND (power), 171 GND (power), 182 GND (power), 183 VCC (power), 194 GND (power), 205 VCC (power)
part C pins: 1 NC, 3 NC, 10 NC, 11 NC, 12 NC, 13 NC, 19 NC, 20 NC, 31 NC, 32 NC, 38 NC, 39 NC, 40 NC, 41 NC, 51 NC, 52 NC, 53 NC, 54 NC, 63 NC, 64 NC, 65 NC, 66 NC, 72 NC, 73 NC, 84 NC, 85 NC, 91 NC, 92 NC, 93 NC, 94 NC, 102 NC, 104 NC, 105 NC, 107 NC, 115 NC, 116 NC, 117 NC, 118 NC, 124 NC, 125 NC, 136 NC, 137 NC, 143 NC, 144 NC, 145 NC, 146 NC, 155 NC, 156 NC, 157 NC, 158 NC, 167 NC, 168 NC, 169 NC, 170 NC, 176 NC, 177 NC, 188 NC, 189 NC, 195 NC, 196 NC, 197 NC, 198 NC, 206 NC, 207 NC, 208 NC